# Altium schematic symbol library Sch_Lib.SchLib: 794 symbols (part 7 of 9)
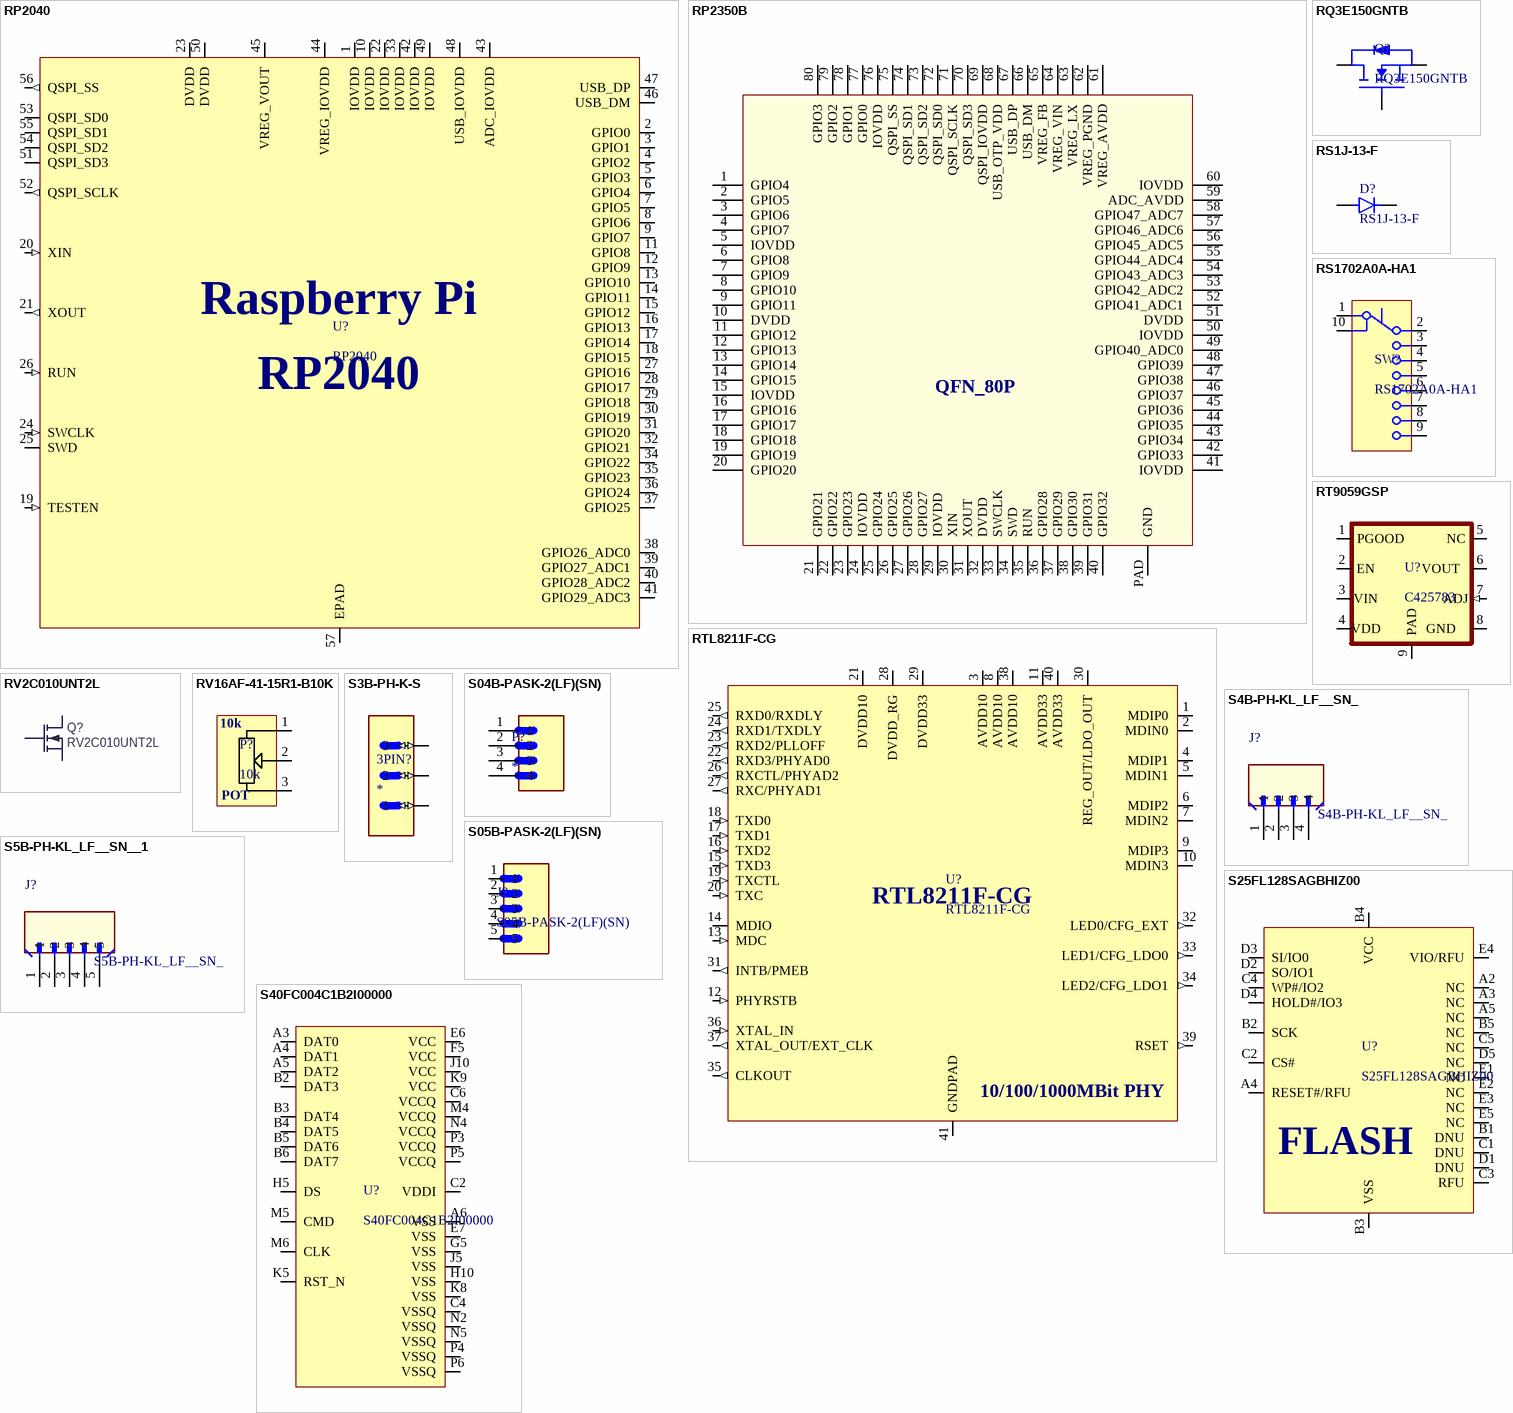
[diagram p51: symbols RP2040 to S40FC004C1B2I00000]

## RP2350B
designator U?
Cortex-M33 QFN-80 7-In |Raspberry-Pi RP2350B; MPN: RP2350B; LCSC: https://www.lcsc.com/product-detail/Microcontrollers-MCU-MPU-SOC_Raspberry-Pi-RP2350B_C42415655.html?s_z=n_rp2350B
footprint QFN-80_L10.0-W10.0-P0.40-TL-EP3.4 (RP2350B Footprint)
pins: 1 GPIO4 (oe), 2 GPIO5, 3 GPIO6, 4 GPIO7, 5 IOVDD (power), 6 GPIO8, 7 GPIO9, 8 GPIO10, 9 GPIO11, 10 DVDD (power), 11 GPIO12, 12 GPIO13, 13 GPIO14, 14 GPIO15, 15 IOVDD (power), 16 GPIO16, 17 GPIO17, 18 GPIO18, 19 GPIO19, 20 GPIO20, 21 GPIO21, 22 GPIO22, 23 GPIO23, 24 IOVDD (power), 25 GPIO24, 26 GPIO25, 27 GPIO26, 28 GPIO27, 29 IOVDD (power), 30 XIN, 31 XOUT, 32 DVDD (power), 33 SWCLK, 34 SWD, 35 RUN, 36 GPIO28, 37 GPIO29, 38 GPIO30, 39 GPIO31, 40 GPIO32, 41 IOVDD (power), 42 GPIO33, 43 GPIO34, 44 GPIO35, 45 GPIO36, 46 GPIO37, 47 GPIO38, 48 GPIO39, 49 GPIO40_ADC0, 50 IOVDD (power), 51 DVDD (power), 52 GPIO41_ADC1, 53 GPIO42_ADC2, 54 GPIO43_ADC3, 55 GPIO44_ADC4, 56 GPIO45_ADC5, 57 GPIO46_ADC6, 58 GPIO47_ADC7, 59 ADC_AVDD (power), 60 IOVDD (power), 61 VREG_AVDD (power), 62 VREG_PGND (power), 63 VREG_LX (power), 64 VREG_VIN (power), 65 VREG_FB (power), 66 USB_DM, 67 USB_DP, 68 USB_OTP_VDD (power), 69 QSPI_IOVDD (power), 70 QSPI_SD3, 71 QSPI_SCLK, 72 QSPI_SD0, 73 QSPI_SD2, 74 QSPI_SD1, 75 QSPI_SS, 76 IOVDD (power), 77 GPIO0, 78 GPIO1, 79 GPIO2, 80 GPIO3, PAD GND (power)
text: QFN_80P

## RQ3E150GNTB
designator Q?
Nch 30V 39A Middle Power MOSFET; Manufacturer: ROHM; Manufacturer Part Number: RQ3E150GNTB
footprint HSMT-8
pins: D, G, S

## RS1J-13-F
designator D?
Diode Switching 600V 1A 2Pin SMA | Diodes Inc RS1J-13-F; MF: Diodes Inc.; SnapEDA_Link: https://www.snapeda.com/parts/RS1J-13-F/Diodes+Inc./view-part/?ref=snap; Package: DO-214 Diodes Inc.; Value: *; MP: RS1J-13-F; Check_prices: https://www.snapeda.com/parts/RS1J-13-F/Diodes+Inc./view-part/?ref=eda
footprint DIOM4325X250N
pins: A, C K

## RS1702A0A-HA1
designator SW?
Rotarye Switch 10-Position THT; Manufacturer: Soundwell; Manufacturer Part Number: RS1702A0A-HA1
footprint RS1702A0A-HA1-5-012
pins: 1 COM, 2, 3, 4, 5, 6, 7, 8, 9, 10 COM

## RT9059GSP
designator U?, comment C425783
3A Adjustable 3V~5.5V Positive electrode 5.5V SOP-8-EP Voltage Regulators - Linear, Low Drop Out (LDO) Regulators ROHS
footprint SOIC127P599X175-9N
pins: 1, 2 (power), 3 (power), 4 (power), 5 (oc), 6 (power), 7 (in), 8 (power), 9 PAD (power)
text: PGOOD; NC; EN; VOUT; VIN; ADJ; VDD; GND

## RTL8211F-CG
designator U?
INTEGRATED 10/100/1000M ETHERNET PRECISION TRANSCEIVER; Manufacturer: Realtek; Manufacturer Part Number: RTL8211F-CG
footprint QFN-40-0.4-EP (QFN 40 Pads 0.4mm Pitch Thermal Pad)
pins: 1 MDIP0 (io), 2 MDIN0 (io), 3 AVDD10 (power), 4 MDIP1 (io), 5 MDIN1 (io), 6 MDIP2 (io), 7 MDIN2 (io), 8 AVDD10 (power), 9 MDIP3 (io), 10 MDIN3 (io), 11 AVDD33 (power), 12 PHYRSTB (in), 13 MDC (in), 14 MDIO (io), 15 TXD3 (in), 16 TXD2 (in), 17 TXD1 (in), 18 TXD0 (in), 19 TXCTL (in), 20 TXC (in), 21 DVDD10 (power), 22 RXD3/PHYAD0 (out), 23 RXD2/PLLOFF (out), 24 RXD1/TXDLY (out), 25 RXD0/RXDLY (out), 26 RXCTL/PHYAD2 (out), 27 RXC/PHYAD1 (out), 28 DVDD_RG (power), 29 DVDD33 (power), 30 REG_OUT/LDO_OUT (power), 31 INTB/PMEB (out), 32 LED0/CFG_EXT (out), 33 LED1/CFG_LDO0 (out), 34 LED2/CFG_LDO1 (out), 35 CLKOUT (out), 36 XTAL_IN (in), 37 XTAL_OUT/EXT_CLK (out), 38 AVDD10 (power), 39 RSET (out), 40 AVDD33 (power), 41 GNDPAD (power)
text: 10/100/1000MBit PHY

## RV2C010UNT2L
designator Q?
N-Channel MOSFET, 20V, 1A, 470mOhm, 400mW; Manufacturer: Rohm Semiconductor; Part number IPS: 00000009976; Part number Norautron: 26320026; Part number NEMS: 101300132; Note: N.A.; Artikkelnr Noca: 35010020; Pad Count: 3; Component Status: Active; Part Number: RV2C010UNT2L; Manufacturer Part Number: RV2C010UNT2L; ComponentLink1URL: N.A.; ComponentLink1Description: Datasheet; ComponentLink2URL: N.A.; ComponentLink2Description: Supplier link; HelpURL: http://rohmfs.rohm.com/en/products/databook/datasheet/discrete/transistor/mosfet/rv2c010unt2l-e.pdf; Footprint Doc: DFN-3; LatestRevisionDate: 2016-08-09; Published: 2016-08-09; Value: RV2C010UNT2L; Supplier 1: Digi-Key; Supplier Part Number 1: RV2C010UNT2LCT-ND; Supplier 2: Mouser; Supplier Part Number 2: 755-RV2C010UNT2L; PartId: 101300132; Component Class: Semiconductors; Author: rsk
footprint DFN65P100X40-3L
pins: 1 G, 2 S, 3 D

## RV16AF-41-15R1-B10K
designator P?, comment 10k
Potentiometer Vertical 10k THT Chassis-Mount 16mm; Manufacturer: Alpha; Manufacturer Part Number: RV16AF-41-15R1-B10K
footprint RV16AF-41-15R1-B10K
pins: 1, 2, 3
text: POT

## S3B-PH-K-S
designator 3PIN?
Connector Header Through Hole, Right Angle 3 position 0.079 (2.00mm); MF: JST Sales; MP: S3B-PH-K-S; SnapEDA_Link: https://www.snapeda.com/parts/S3B-PH-K-S/JST/view-part/?ref=snap; Package: NON STANDARD-3 J.S.T.; Value: *; Check_prices: https://www.snapeda.com/parts/S3B-PH-K-S/JST/view-part/?ref=eda
footprint S3B-PH-K-S
pins: 1 (io), 2 (io), 3 (io)

## S04B-PASK-2(LF)(SN)
designator P?
Connector Header Through Hole, Right Angle 4 position 0.079 (2.00mm); MF: JST Sales; MP: S04B-PASK-2(LF)(SN); SnapEDA_Link: https://www.snapeda.com/parts/S04B-PASK-2(LF)(SN)/JST/view-part/?ref=snap; Package: None; Value: *; Check_prices: https://www.snapeda.com/parts/S04B-PASK-2(LF)(SN)/JST/view-part/?ref=eda
footprint JST_S04B-PASK-2(LF)(SN)
pins: 1, 2, 3, 4

## S4B-PH-KL_LF__SN_
designator J?
CONN HEADER R/A 4POS 2MM; Manufacturer_Name: JST (JAPAN SOLDERLESS TERMINALS); Manufacturer_Part_Number: S4B-PH-KL(LF)(SN); Geometry.Height: 4.8mm; Mouser Part Number: 306-S4BPHKLLFSN; Mouser Price/Stock: https://www.mouser.co.uk/ProductDetail/JST-Commercial/S4B-PH-KLLFSN?qs=QpmGXVUTftG%2FzQwMPk3Vlw%3D%3D; Datasheet Link: https://datasheet.lcsc.com/szlcsc/JST-Sales-America-S4B-PH-KL-LF-SN_C160235.pdf
footprint S4BPHKLLFSN
pins: 1, 2, 3, 4

## S05B-PASK-2(LF)(SN)
designator J?
Connector Header Through Hole, Right Angle 4 position 0.079 (2.00mm)
footprint JST_S05B-PASK-2(LF)(SN)
pins: 1, 2, 3, 4, 5

## S5B-PH-KL_LF__SN__1
designator J?, comment S5B-PH-KL_LF__SN_
CONN HEADER R/A 5POS 2MM; Manufacturer_Name: JST (JAPAN SOLDERLESS TERMINALS); Manufacturer_Part_Number: S4B-PH-KL(LF)(SN); Geometry.Height: 4.8mm; Mouser Part Number: 306-S4BPHKLLFSN; Mouser Price/Stock: https://www.mouser.co.uk/ProductDetail/JST-Commercial/S4B-PH-KLLFSN?qs=QpmGXVUTftG%2FzQwMPk3Vlw%3D%3D; Datasheet Link: https://datasheet.lcsc.com/szlcsc/JST-Sales-America-S4B-PH-KL-LF-SN_C160235.pdf
footprint S5BPHKLLFSN
pins: 1, 2, 3, 4, 5

## S25FL128SAGBHIZ00
designator U?
NOR Flash 128Mb 133MHz QSPl; Manufacturer: Cypress Semiconductor; Manufacturer Part Number: S25FL128SAGBHIZ00
footprint BGA25C100P5X5_600X800X120 (BGA, 25-Leads, Body 6.00x8.00mmx1.20mm, Pitch 1.00mm)
pins: A2 NC, A3 NC, A4 RESET#/RFU, A5 NC, B1 DNU, B2 SCK, B3 VSS, B4 VCC, B5 NC, C1 DNU, C2 CS#, C3 RFU, C4 WP#/IO2, C5 NC, D1 DNU, D2 SO/IO1, D3 SI/IO0, D4 HOLD#/IO3, D5 NC, E1 NC, E2 NC, E3 NC, E4 VIO/RFU, E5 NC
text: FLASH

## S40FC004C1B2I00000
designator U?
eMMC MLC Memory 4GB 3V3; Manufacturer: SkyHigh Memory; Manufacturer Part Number: S40FC004C1B2I00000
footprint VFBGA153-9.0x7.5x0.8
pins: A3 DAT0, A4 DAT1, A5 DAT2, A6 VSS, B2 DAT3, B3 DAT4, B4 DAT5, B5 DAT6, B6 DAT7, C2 VDDI, C4 VSSQ, C6 VCCQ, E6 VCC, E7 VSS, F5 VCC, G5 VSS, H5 DS, H10 VSS, J5 VSS, J10 VCC, K5 RST_N, K8 VSS, K9 VCC, M4 VCCQ, M5 CMD, M6 CLK, N2 VSSQ, N4 VCCQ, N5 VSSQ, P3 VCCQ, P4 VSSQ, P5 VCCQ, P6 VSSQ

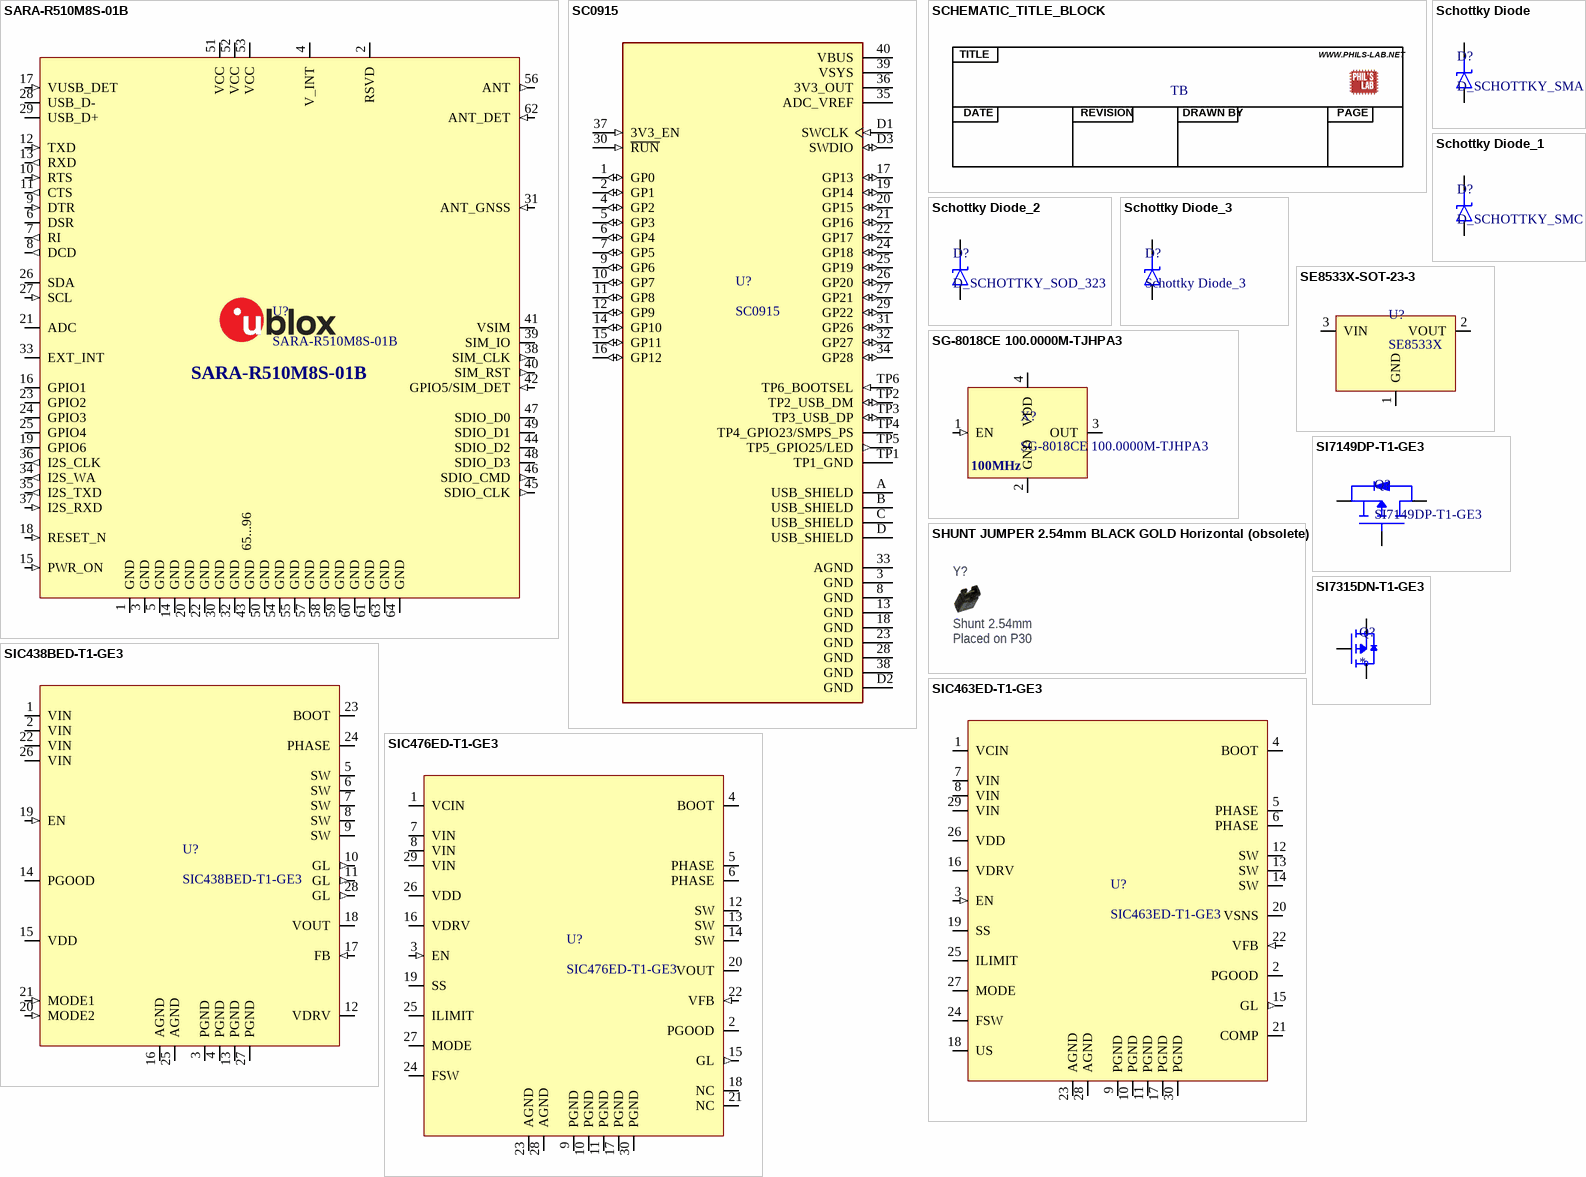
[diagram p31: symbols SARA-R510M8S-01B to SIC476ED-T1-GE3]

## SARA-R510M8S-01B
designator U?
Secure Cloud LTE-M and NB-IoT combo module with integrated u-blox M8 GNSS receiver for multi-regional use; Manufacturer: u-blox; Manufacturer Part Number: SARA-R510M8S-01B; Distributor Link: https://www.mouser.de/ProductDetail/u-blox/SARA-R510M8S-01B?qs=QNEnbhJQKvYa3sxdFdDP4w%3D%3D&gclid=CjwKCAiAwc-dBhA7EiwAxPRylKnSUPShzCKShE4YmhLtKIzyKR1Hn1Ejf9z6DrhP0wlU82vCiLopnxoC6RgQAvD_BwE
footprint SARA-XX (GSM/GPRS and GSM/EGPRS/HSPA Cellular Module)
pins: 1 GND (power), 2 RSVD, 3 GND (power), 4 V_INT (power), 5 GND (power), 6 DSR (io), 7 RI (out), 8 DCD (out), 9 DTR (in), 10 RTS (in), 11 CTS (out), 12 TXD (in), 13 RXD (out), 14 GND (power), 15 PWR_ON (in), 16 GPIO1 (io), 17 VUSB_DET (in), 18 RESET_N (in), 19 GPIO6, 20 GND (power), 21 ADC (power), 22 GND (power), 23 GPIO2 (io), 24 GPIO3 (io), 25 GPIO4 (io), 26 SDA (io), 27 SCL (in), 28 USB_D- (io), 29 USB_D+ (io), 30 GND (power), 31 ANT_GNSS (in), 32 GND (power), 33 EXT_INT, 34 I2S_WA (out), 35 I2S_TXD (out), 36 I2S_CLK (out), 37 I2S_RXD (in), 38 SIM_CLK (out), 39 SIM_IO (io), 40 SIM_RST (out), 41 VSIM (power), 42 GPIO5/SIM_DET (in), 43 GND (power), 44 SDIO_D2 (io), 45 SDIO_CLK (out), 46 SDIO_CMD (out), 47 SDIO_D0 (io), 48 SDIO_D3 (io), 49 SDIO_D1 (io), 50 GND (power), 51 VCC (power), 52 VCC (power), 53 VCC (power), 54 GND (power), 55 GND (power), 56 ANT (out), 57 GND (power), 58 GND (power), 59 GND (power), 60 GND (power), 61 GND (power), 62 ANT_DET (in), 63 GND (power), 64 GND (power), 65 GND (power), 66 GND (power), 67 GND (power), 68 GND (power), 69 GND (power), 70 GND (power), 71 GND (power), 72 GND (power), 73 GND (power), 74 GND (power), 75 GND (power), 76 GND (power), 77 GND (power), 78 GND (power), 79 GND (power), 80 GND (power), 81 GND (power), 82 GND (power), 83 GND (power), 84 GND (power), 85 GND (power), 86 GND (power), 87 GND (power), 88 GND (power), 89 GND (power), 90 GND (power), 91 GND (power), 92 GND (power), 93 GND (power), 94 GND (power), 95 GND (power), 96 GND (power)
text: 65...96

## SC0915
designator U?
RP2040 Raspberry Pi Pico series ARMÂ® CortexÂ®-M0+ MCU 32-Bit Embedded Evaluation Board; SnapEDA_Link: https://www.snapeda.com/parts/SC0915/Raspberry+Pi/view-part/?ref=snap; Availability: In Stock; Package: None; Price: None; MP: SC0915; Check_prices: https://www.snapeda.com/parts/SC0915/Raspberry+Pi/view-part/?ref=eda; MF: Raspberry Pi; Value: *; Purchase-URL: https://pricing.snapeda.com/search/part/SC0915/?ref=eda
footprint MODULE_SC0915
pins: 1 GP0 (io), 2 GP1 (io), 3 GND (power), 4 GP2 (io), 5 GP3 (io), 6 GP4 (io), 7 GP5 (io), 8 GND (power), 9 GP6 (io), 10 GP7 (io), 11 GP8 (io), 12 GP9 (io), 13 GND (power), 14 GP10 (io), 15 GP11 (io), 16 GP12 (io), 17 GP13 (io), 18 GND (power), 19 GP14 (io), 20 GP15 (io), 21 GP16 (io), 22 GP17 (io), 23 GND (power), 24 GP18 (io), 25 GP19 (io), 26 GP20 (io), 27 GP21 (io), 28 GND (power), 29 GP22 (io), 30 ~{RUN} (in), 31 GP26 (io), 32 GP27 (io), 33 AGND (power), 34 GP28 (io), 35 ADC_VREF (power), 36 3V3_OUT (power), 37 3V3_EN (in), 38 GND (power), 39 VSYS (power), 40 VBUS (power), A USB_SHIELD (power), B USB_SHIELD (power), C USB_SHIELD (power), D USB_SHIELD (power), D1 SWCLK (in), D2 GND (power), D3 SWDIO (io), TP1 TP1_GND (power), TP2 TP2_USB_DM (io), TP3 TP3_USB_DP (io), TP4 TP4_GPIO23/SMPS_PS, TP5 TP5_GPIO25/LED (out), TP6 TP6_BOOTSEL (in)

## SCHEMATIC_TITLE_BLOCK
designator TB  (value not drawn)  (graphical)
Default Schematic Title Block (Phil's Lab)
text: TITLE; WWW.PHILS-LAB.NET; DATE; REVISION; DRAWN BY; PAGE

## Schottky Diode
designator D?, comment D_SCHOTTKY_SMA
Diode Schottky SMD SMA (DO-214AA)
footprint DO-214AC-2 (SMA)
pins: A, K

## Schottky Diode_1
designator D?, comment D_SCHOTTKY_SMC
Diode Schottky SMD SMC (DO-214AB); Distributor Link: *
footprint SMC-DO-214AB
pins: A, K

## Schottky Diode_2
designator D?, comment D_SCHOTTKY_SOD_323
Diode Schottky SMD SOD-323
footprint SOD-323
pins: A, K

## Schottky Diode_3
designator D?
Schottky Diode SMD SMAF package
footprint DIOM5226X100N
pins: A, K

## SE8533X-SOT-23-3
designator U?, comment SE8533X
3.3V 250mA Fixed 3.3V Positive electrode 35V SOT-23-3 Linear Voltage Regulators (LDO) ROHS; Manufacturer: Microchip; Manufacturer Part Number: MCP9701T-E/TT
footprint SE85XX-SOT-23-3
pins: 1 GND, 2 VOUT, 3 VIN

## SG-8018CE 100.0000M-TJHPA3
designator X?
Standard Clock Oscillators 100 MHz 1.8V-3.3V 15PF 50PPM 3.2mm x 2.5mm; Manufacturer: Epson; Manufacturer Part Number: SG-8018CE 100.0000M-TJHPA3
footprint XTAL_3225
pins: 1 EN (in), 2 GND (power), 3 OUT, 4 VDD (power)
text: 100MHz

## SHUNT JUMPER 2.54mm BLACK GOLD Horizontal (obsolete)
designator Y?, comment Shunt 2.54mm  Assembly: Placed on P30
Shunt Jumper 2.54mm Black; Part Number: SHUNT JUMPER 2.54mm BLACK GOLD Horizontal (Obsolete); Manufacturer: 3M; Manufacturer Part Number: 969102-0000-DA; Part number IPS: 00000001916; Part number Norautron: N.A.; Part number NEMS: 100500644; Note: SHUNT JUMPER .1" BLACK GOLD, h=6.00mm, w=5.00mm; Artikkelnr Noca: 56099001; Pad Count: 2; Component Status: Obsolete; System: Connector; ComponentLink1URL: N.A.; ComponentLink1Description: Datasheet; ComponentLink2URL: N.A.; ComponentLink2Description: Supplier link; HelpURL: http://www.digikey.com/product-detail/en/969102-0000-DA; Footprint Doc: SHUNT JUMPER 2.54mm; LatestRevisionDate: 2021-06-28; Published: 2019-09-04; Value: Shunt 2.54mm; Supplier 1: Digi-Key; Supplier Part Number 1: 3M9580-ND; Supplier 2: N.A.; Supplier Part Number 2: N.A.; PartId: 100500644; Component Class: Connectors; Author: rsk
footprint Shunt_2.54mm_Horizontal

## SI7149DP-T1-GE3
designator Q?
MOSFET P-Channel Vds=30V Id=50A Rds=5.2mR; Manufacturer: Vishay; Manufacturer Part Number: SI7149DP-T1-GE3
footprint PowerPAK-SO-8
pins: D, G, S

## SI7315DN-T1-GE3
designator Q?
150V 8.9A 3.8W 315mΩ@10V,8.9A 1 P-Channel PowerPAK1212-8 MOSFETs ROHS; MF: Vishay Siliconix; MP: SIS468DN-T1-GE3; SnapEDA_Link: https://www.snapeda.com/parts/SIS468DN-T1-GE3/Vishay/view-part/?ref=snap; Package: PowerPAKÂ®-1212 Vishay; Value: *; Check_prices: https://www.snapeda.com/parts/SIS468DN-T1-GE3/Vishay/view-part/?ref=eda
footprint VISHAY_SIS468DN-T1-GE3
pins: 1 S, 2 S, 3 S, 4 G, 5 D, 6 D, 7 D, 8 D, 9 D

## SIC438BED-T1-GE3
designator U?
3 V to 28 V Input 8A microBUCK® DC/DC Converter; Manufacturer: Vishay; Manufacturer Part Number: SIC438BED-T1-GE3; Distributor Link: https://eu.mouser.com/ProductDetail/Vishay-Siliconix/SIC438BED-T1-GE3?qs=wd5RIQLrsJhAHAqoS3ITiQ%3D%3D; LCSC: C511430
footprint MLP44-24L
pins: 1 VIN (power), 2 VIN (power), 3 PGND (power), 4 PGND (power), 5 SW (power), 6 SW (power), 7 SW (power), 8 SW (power), 9 SW (power), 10 GL (out), 11 GL (out), 12 VDRV (power), 13 PGND (power), 14 PGOOD (oc), 15 VDD (power), 16 AGND (power), 17 FB (in), 18 VOUT (power), 19 EN (in), 20 MODE2 (in), 21 MODE1 (in), 22 VIN (power), 23 BOOT (power), 24 PHASE (power), 25 AGND (power), 26 VIN (power), 27 PGND (power), 28 GL (out)

## SIC463ED-T1-GE3
designator U?
4.5 V to 60 V Input, 4 A microBUCK® DC/DC Converter; Manufacturer: Vishay; Manufacturer Part Number: SIC463ED-T1-GE3
footprint MLP55-27L
pins: 1 VCIN (power), 2 PGOOD (oc), 3 EN (in), 4 BOOT (power), 5 PHASE (power), 6 PHASE (power), 7 VIN (power), 8 VIN (power), 9 PGND (power), 10 PGND (power), 11 PGND (power), 12 SW (power), 13 SW (power), 14 SW (power), 15 GL (out), 16 VDRV (power), 17 PGND (power), 18 US, 19 SS, 20 VSNS (power), 21 COMP, 22 VFB (in), 23 AGND (power), 24 FSW, 25 ILIMIT, 26 VDD (power), 27 MODE, 28 AGND (power), 29 VIN (power), 30 PGND (power)

## SIC476ED-T1-GE3
designator U?
4.5 V to 55 V Input, 3 A, 5 A, 8 A, 12 A microBUCK® DC/DC Converter; Manufacturer: Vishay; Manufacturer Part Number: SIC476ED-T1-GE3
footprint MLP55-27L
pins: 1 VCIN (power), 2 PGOOD (oc), 3 EN (in), 4 BOOT (power), 5 PHASE (power), 6 PHASE (power), 7 VIN (power), 8 VIN (power), 9 PGND (power), 10 PGND (power), 11 PGND (power), 12 SW (power), 13 SW (power), 14 SW (power), 15 GL (out), 16 VDRV (power), 17 PGND (power), 18 NC, 19 SS, 20 VOUT (power), 21 NC, 22 VFB (in), 23 AGND (power), 24 FSW, 25 ILIMIT, 26 VDD (power), 27 MODE, 28 AGND (power), 29 VIN (power), 30 PGND (power)

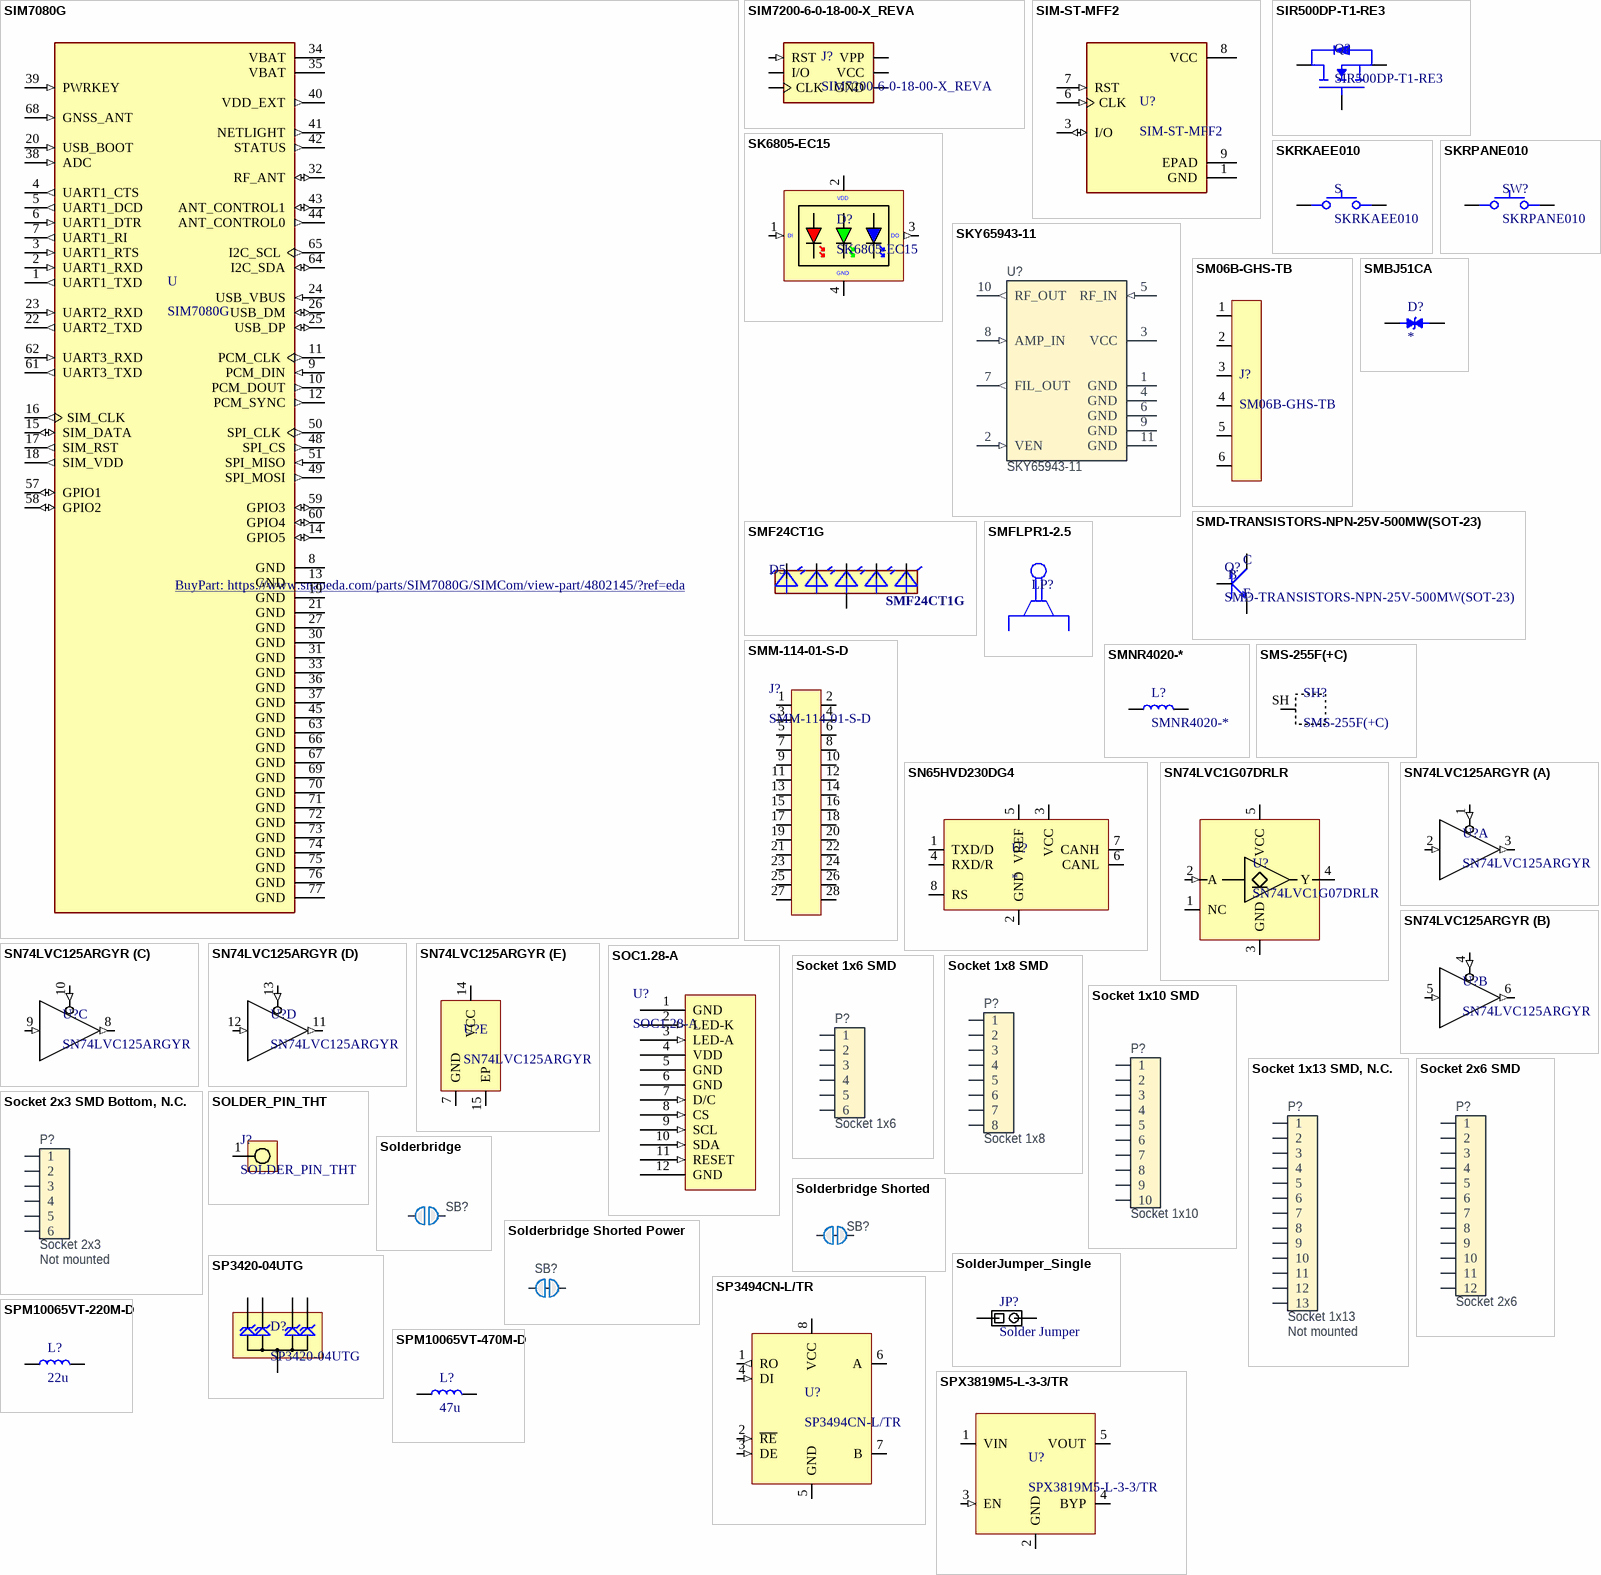
[diagram p32: symbols SIM7080G to SPX3819M5-L-3-3/TR]

## SIM7080G
designator U
Multi-Band CAT-M and NB-IoT module solution in an SMT type.; MF: SIMCom; Package: Package; MP: SIM7080G; Price: None; Availability: Unavailable; Value: *; SnapEDA_Link: https://www.snapeda.com/parts/SIM7080G/SIMCom/view-part/4802145/?ref=snap; BuyPart: https://www.snapeda.com/parts/SIM7080G/SIMCom/view-part/4802145/?ref=eda
footprint XCVR_SIM7080G
pins: 1 UART1_TXD (out), 2 UART1_RXD (in), 3 UART1_RTS (in), 4 UART1_CTS (out), 5 UART1_DCD (out), 6 UART1_DTR (in), 7 UART1_RI (out), 8 GND (power), 9 PCM_DIN (in), 10 PCM_DOUT (out), 11 PCM_CLK (out), 12 PCM_SYNC (out), 13 GND (power), 14 GPIO5 (io), 15 SIM_DATA (io), 16 SIM_CLK (out), 17 SIM_RST (out), 18 SIM_VDD (out), 19 GND (power), 20 USB_BOOT (in), 21 GND (power), 22 UART2_TXD (out), 23 UART2_RXD (in), 24 USB_VBUS (in), 25 USB_DP (io), 26 USB_DM (io), 27 GND (power), 30 GND (power), 31 GND (power), 32 RF_ANT (io), 33 GND (power), 34 VBAT (power), 35 VBAT (power), 36 GND (power), 37 GND (power), 38 ADC (in), 39 PWRKEY (in), 40 VDD_EXT (out), 41 NETLIGHT (out), 42 STATUS (out), 43 ANT_CONTROL1 (io), 44 ANT_CONTROL0 (out), 45 GND (power), 48 SPI_CS (out), 49 SPI_MOSI (out), 50 SPI_CLK (out), 51 SPI_MISO (in), 57 GPIO1 (io), 58 GPIO2 (io), 59 GPIO3 (io), 60 GPIO4 (io), 61 UART3_TXD (out), 62 UART3_RXD (in), 63 GND (power), 64 I2C_SDA (io), 65 I2C_SCL (out), 66 GND (power), 67 GND (power), 68 GNSS_ANT (in), 69 GND (power), 70 GND (power), 71 GND (power), 72 GND (power), 73 GND (power), 74 GND (power), 75 GND (power), 76 GND (power), 77 GND (power)

## SIM7200-6-0-18-00-X_REVA
designator J?
6 Position Card Connector Micro SIM Surface Mount, Right Angle Gold; MP: SIM7200-6-0-18-00-A; MF: Global Connector Technology; SnapEDA_Link: https://www.snapeda.com/parts/SIM7200-6-0-18-00-A/Global+Connector+Technology/view-part/?ref=snap; Availability: In Stock; Price: None; Value: *; Check_prices: https://www.snapeda.com/parts/SIM7200-6-0-18-00-A/Global+Connector+Technology/view-part/?ref=eda; Package: None
footprint GCT_SIM7200-6-0-18-00-X_REVA
pins: C1 VCC (power), C2 RST (in), C3 CLK (io), C5 GND (power), C6 VPP (power), C7 I/O (io)

## SIM-ST-MFF2
designator U?
GLOBAL IOT EMBEDDED SIM CHIP; Value: *; Availability: Unavailable; Price: None; MP: SIM-ST-MFF2; Package: None
footprint PSON127P500X600X82-9N
pins: 1 GND (power), 3 I/O (io), 6 CLK (in), 7 RST (in), 8 VCC (power), 9 EPAD

## SIR500DP-T1-RE3
designator Q?
MOSFET N-Channel Vds=30V Id=351A Rds=470uR; Manufacturer: Vishay; Manufacturer Part Number: SIR500DP-T1-RE3
footprint PowerPAK-SO-8
pins: D, G, S

## SK6805-EC15
designator D?
RGB LED SMD Addressable; Manufacturer: OPSCO; Manufacturer Part Number: SK6805-EC15; Datasheet: https://www.ledlightinghut.com/files/SK6805-EC15-REV-05-EN.pdf; Distributor Link: https://eu.mouser.com/ProductDetail/Adafruit/4492?qs=CUBnOrq4ZJz3oeplDXDOWA%3D%3D
footprint SK6805-EC15
pins: 1 DIN (in), 2 VDD (power), 3 DOUT (out), 4 GND (power)
text: DI; DO

## SKRKAEE010
designator S
Switch Tactile N.O. SPST Round Button Gull Wing 0.05A 12VDC 1.57N SMD T/R; MF: ALPS; Availability: Unavailable; Price: None; Package: None; Value: *; SnapEDA_Link: https://www.snapeda.com/parts/SKRKAEE010/ALPS/view-part/380772/?ref=snap; MP: SKRKAEE010
footprint SKRK
pins: 1, 2

## SKRPANE010
designator SW?
Tactile Switch SMD SPST; Manufacturer: Alps Alpine; Manufacturer Part Number: SKRPANE010
footprint SKRPANE010
pins: 12, 34

## SKY65943-11
designator U?
GNSS Low-Noise Amplifier Front-End Module with Integrated Pre-Filter and Post-Filter; Manufacturer: Skyworks; Part number IPS: 00000002997; Part number NEMS: 101900584; Note: N.A.; Pad Count: 10; Component Status: Active; Part Number: SKY65943-11; Manufacturer Part Number: SKY65943-11; Footprint Doc: MCM-10; Value: SKY65943-11; ComponentLink1URL: http://www.skyworksinc.com/uploads/documents/SKY65943_11_204404F.pdf; ComponentLink1Description: Datasheet; ComponentLink2URL: https://www.digikey.com/product-detail/en/skyworks-solutions-inc/SKY65943-11/863-2032-1-ND; ComponentLink2Description: Supplier link; HelpURL: http://www.skyworksinc.com/Product/3579/SKY65943-11; LatestRevisionDate: 2019-04-16; Published: 2019-04-16; Supplier 1: Digi-Key; Supplier Part Number 1: 863-2032-1-ND; Supplier 2: Mouser; Supplier Part Number 2: 873-SKY65943-11; Artikkelnr Noca: N.A.; PartId: 101900584; Component Class: Misc_ICs; Author: rsk; Part number Norautron: N.A.
footprint SKY65943-11
pins: 1 GND (power), 2 VEN (in), 3 VCC (power), 4 GND (power), 5 RF_IN (in), 6 GND (power), 7 FIL_OUT (out), 8 AMP_IN (in), 9 GND (power), 10 RF_OUT (out), 11 GND (power)

## SM06B-GHS-TB
designator J?
Header Connector 6 Position 1.25MM Pitch SMD Horizontal JST GH; Manufacturer: JST; Manufacturer Part Number: SM06B-GHS-TB
footprint Model Name (Footprint not found)
footprint SM06B-GHS-TB
pins: 1, 2, 3, 4, 5, 6

## SMBJ51CA
designator D?
600W, 59.7V, 5%, Bidirectional, TVS; MP: SMBJ51CA; MF: Taiwan Semiconductor Corporation; Purchase-URL: https://pricing.snapeda.com/search/part/SMBJ51CA/?ref=eda; Value: *; Availability: In Stock; Package: SMB Taiwan Semiconductor; SnapEDA_Link: https://www.snapeda.com/parts/SMBJ51CA/Taiwan+Semiconductor/view-part/?ref=snap; Price: None; Check_prices: https://www.snapeda.com/parts/SMBJ51CA/Taiwan+Semiconductor/view-part/?ref=eda
footprint DIOM4336X265N
pins: 1, 2

## SMD-TRANSISTORS-NPN-25V-500MW(SOT-23)
designator Q?
Bipolar (BJT) Transistor NPN 25 V 500 mA 150MHz 300 mW Surface Mount SOT-23; MF: UMW; MP: S8050; Purchase-URL: https://pricing.snapeda.com/search/part/S8050/?ref=eda; Check_prices: https://www.snapeda.com/parts/S8050/Umwelt+Sensor+Teknik/view-part/?ref=eda; SnapEDA_Link: https://www.snapeda.com/parts/S8050/Umwelt+Sensor+Teknik/view-part/?ref=snap; Price: None; Availability: In Stock; Package: None; Value: *
footprint SOT-23
pins: 1 B, 2 E, 3 C

## SMF24CT1G
designator D5
Quint Uni-Directional TVS Diode, 100W, 6-Pin SC-88 | ON Semiconductor SMF24CT1G; MP: SMF05C; MF: ProTek Devices; Price: None; Availability: In Stock; Package: TSSOP-6 ProTek Devices; SnapEDA_Link: https://www.snapeda.com/parts/SMF05C/Protek+Devices/view-part/?ref=snap; Check_prices: https://www.snapeda.com/parts/SMF05C/Protek+Devices/view-part/?ref=eda; Value: *
footprint SOT65P210X110-6N
pins: 1 C1, 2 A, 3 C2, 4 C3, 5 C4, 6 C5

## SMFLPR1-2.5
designator LP?  (value not drawn)  (mechanical)
LED Light-Pipe Rectangular Lense 2.5in Length 1mm Core; Manufacturer: BIVAR; Manufacturer Part Number: SMFLPR1-2.5; Distributor Link: https://www.mouser.de/ProductDetail/Bivar/SMFLPR1-2.5?qs=jaLxTFIJCisDD%2F7xsHCz4Q%3D%3D
footprint SMFLPR1-2.5

## SMM-114-01-S-D
designator J?
Low Profile Socket Strip 2.00 mm Pitch THT; Manufacturer: Samtec; Manufacturer Part Number: SMM-114-01-S-D
footprint SMM-114-01-S-D
pins: 1, 2, 3, 4, 5, 6, 7, 8, 9, 10, 11, 12, 13, 14, 15, 16, 17, 18, 19, 20, 21, 22, 23, 24, 25, 26, 27, 28

## SMNR4020-*
designator L?
Inductor SXN SMNR4020 Series 4x4x2mm; Manufacturer: SXN; Manufacturer Part Number: SMNR4020-*; Distributor Link: *; LCSC: *
footprint SMNR4020 (Inductor SMNR4020)
pins: 1, 2

## SMS-255F(+C)
designator SH?
RF Shield 19.05mm x 19.05mm x 5.08mm / SMS-255F = Frame / SMS-255C = Cover; Manufacturer: LeaderTech; Manufacturer Part Number: SMS-255F
footprint SMS-255F
pins: SH

## SN65HVD230DG4
designator U?
3.3 V CAN Transceiver with Standby Mode 8-SOIC -40 to 85; MF: Texas Instruments; MP: SN65HVD230DG4; SnapEDA_Link: https://www.snapeda.com/parts/SN65HVD230DG4/Texas+Instruments/view-part/?ref=snap; Package: SOIC-8 Texas Instruments; Value: *; Check_prices: https://www.snapeda.com/parts/SN65HVD230DG4/Texas+Instruments/view-part/?ref=eda
footprint SOIC127P599X175-8N
pins: 1 TXD/D, 2 GND , 3 VCC, 4 RXD/R, 5 VREF, 6 CANL, 7 CANH, 8 RS

## SN74LVC1G07DRLR
designator U?
Single Buffer/Driver With Open-Drain Output; Manufacturer: Texas Instruments; Manufacturer Part Number: SN74LVC1G07DRLR; Distributor Link: https://www.mouser.de/ProductDetail/Texas-Instruments/SN74LVC1G07DRLR?qs=pajgIaoyDUjwau6f5T7MtQ%3D%3D; LCSC: C183013
footprint SOT-5 (SOT, 5-Leads, Body 1.60x1.60mm, Pitch 0.50mm, IPC Medium Density)
pins: 1 NC, 2 A (in), 3 GND (power), 4 Y (oc), 5 VCC (power)

## SN74LVC125ARGYR
designator U?
Quadruple Bus Buffer Gate With 3-State Outputs; Manufacturer: Texas Instruments; Manufacturer Part Number: SN74LVC125ARGYR; Distributor Link: https://www.mouser.de/ProductDetail/Texas-Instruments/SN74LVC125ARGYR?qs=d9gICRQKuCcvN%252BAdiEuZ%252BA%3D%3D; LCSC: https://www.lcsc.com/product-detail/Buffer-Driver-Transceiver_Texas-Instruments-SN74LVC125ARGYR_C2652108.html
footprint VQFN-14 (QFN, 14-Leads, Body 3.50x3.50mm, Pitch 0.50mm, Thermal Pad 2.00x2.00mm, IPC Medium Density)
part A pins: 1 1~{OE} (in), 2 1A (in), 3 1Y (out)
part B pins: 4 2~{OE} (in), 5 2A (in), 6 2Y (out)
part C pins: 8 3Y (out), 9 3A (in), 10 3~{OE} (in)
part D pins: 11 4Y (out), 12 4A (in), 13 4~{OE} (in)
part E pins: 7 GND (power), 14 VCC (power), 15 EP (power)

## SOC1.28-A
designator U?
SOC1.28-A is a 240RGBX240 dot-matrix TFT LCD module. / This module is composed of a TFT LCD Panel, driver ICs, FPC and a Backlight unit.
footprint SOC1.28-A
pins: 1 GND  (power), 2 LED-K (in), 3 LED-A (in), 4 VDD (power), 5 GND  (power), 6 GND (power), 7 D/C (in), 8 CS (in), 9 SCL (in), 10 SDA (in), 11 RESET (in), 12 GND (power)

## Socket 1x6 SMD
designator P?, comment Socket 1x6
Socket 1x6, 2.54mm (100mil), SMD; Part Number: Socket 1x6 SMD; Manufacturer: WCON; Manufacturer Part Number: 2171-106MS0CUNR1; Part number IPS: 00000009964; Part number Norautron: 26032370; Part number NEMS: 100500408; Note: N.A.; Artikkelnr Noca: 55030001; Pad Count: 6; Component Status: Active; System: Connector; Footprint Doc: SOCKET_1x6_SMD; LatestRevisionDate: 2017-10-23; Published: 2016-01-22; Value: Socket 1x6; ComponentLink1URL: N.A.; ComponentLink1Description: Datasheet; ComponentLink2URL: N.A.; ComponentLink2Description: Supplier link; HelpURL: N.A.; Supplier 1: Cabcon; Supplier Part Number 1: 2171-106MS0CUNR1; Supplier 2: Samtec; Supplier Part Number 2: SSM-106-F-SV-P-TR; PartId: 100500408; Component Class: Connectors; Author: rsk
footprint SOCKET_1x6_SMD
pins: 1, 2, 3, 4, 5, 6
1 alternate drawing of the same symbol

## Socket 1x8 SMD
designator P?, comment Socket 1x8
Socket 1x8, 2.54mm (100mil), SMD; Part Number: Socket 1x8 SMD; Manufacturer: WCON; Manufacturer Part Number: 2171-108MS0CUNR1; Part number IPS: 00000009963; Part number Norautron: 26032369; Part number NEMS: 100500412; Note: N.A.; Artikkelnr Noca: 55030002; Pad Count: 8; Component Status: Active; System: Connector; Footprint Doc: SOCKET_1x8_SMD; LatestRevisionDate: 2017-10-23; Published: 2016-01-22; Value: Socket 1x8; ComponentLink1URL: N.A.; ComponentLink1Description: Datasheet; ComponentLink2URL: N.A.; ComponentLink2Description: Supplier link; HelpURL: N.A.; Supplier 1: Cabcon; Supplier Part Number 1: 2171-108MS0CUNR1; Supplier 2: Samtec; Supplier Part Number 2: SSM-108-F-SV-P-TR; PartId: 100500412; Component Class: Connectors; Author: rsk
footprint SOCKET_1x8_SMD
pins: 1, 2, 3, 4, 5, 6, 7, 8
1 alternate drawing of the same symbol

## Socket 1x10 SMD
designator P?, comment Socket 1x10
Socket 1x10, 2.54mm (100mil), SMD; Part Number: Socket 1x10 SMD; Manufacturer: WCON; Manufacturer Part Number: 2171-110MS0CUNR1; Part number IPS: 00000009965; Part number Norautron: 26032371; Part number NEMS: 100500416; Note: N.A.; Artikkelnr Noca: 55030004; Pad Count: 10; Component Status: Active; System: Connector; Footprint Doc: SOCKET_1x10_SMD; LatestRevisionDate: 2016-01-22; Published: 2016-01-22; Value: Socket 1x10; ComponentLink1URL: N.A.; ComponentLink1Description: Datasheet; ComponentLink2URL: N.A.; ComponentLink2Description: Supplier link; HelpURL: N.A.; Supplier 1: Cabcon; Supplier Part Number 1: 2171-110MS0CUNR1; Supplier 2: Samtec; Supplier Part Number 2: SSM-110-F-SV-P-TR; PartId: 100500416; Component Class: Connectors; Author: rsk
footprint SOCKET_1x10_SMD
pins: 1, 2, 3, 4, 5, 6, 7, 8, 9, 10
1 alternate drawing of the same symbol

## Socket 1x13 SMD, N.C.
designator P?, comment Socket 1x13  Assembly: Not mounted
Socket 1x13, 2.54mm (100mil), SMD; Part Number: Socket 1x13 SMD, N.C.; Manufacturer: WCON; Manufacturer Part Number: 2171-113MS0CUNR1; Part number NEMS: 100500422; Note: N.A.; Pad Count: 13; Component Status: Active; System: Connector; Footprint Doc: SOCKET_1x13_SMD; LatestRevisionDate: 2019-05-27; Published: 2019-05-27; Value: Socket 1x13; Artikkelnr Noca: N.A.; Part number IPS: N.A.; ComponentLink1URL: N.A.; ComponentLink1Description: Datasheet; ComponentLink2URL: N.A.; ComponentLink2Description: Supplier link; HelpURL: N.A.; Supplier 1: Cabcon; Supplier Part Number 1: 2171-113MS0CUNR1; Supplier 2: Samtec; Supplier Part Number 2: SSM-113-L-SV-P-TR; PartId: 100500422; Component Class: Connectors; Author: rsk; Part number Norautron: N.A.
footprint LIST_1x13_SMD-NC
pins: 1, 2, 3, 4, 5, 6, 7, 8, 9, 10, 11, 12, 13

## Socket 2x3 SMD Bottom, N.C.
designator P?, comment Socket 2x3  Assembly: Not mounted
Socket 2x3, 2.54mm (100mil), SMD; Part Number: Socket 2x3 SMD Bottom, N.C.; Manufacturer: WCON; Manufacturer Part Number: 2171-203MS0CUNR1; Part number NEMS: 100500434; Note: N.A.; Artikkelnr Noca: 55030010; Pad Count: 6; Component Status: Active; System: Connector; LatestRevisionDate: 2016-03-29; Published: 2014-06-10; Value: Socket 2x3; Footprint Doc: SOCKET_2x3_SMD-2.54mm-bottom; Part number IPS: N.A.; ComponentLink1URL: N.A.; ComponentLink1Description: Datasheet; ComponentLink2URL: N.A.; ComponentLink2Description: Supplier link; HelpURL: \\hizz\pro\app9717\Datasheet\connectors\W-CON\2171-2XXMXXCUNXX.pdf; Supplier 1: Cabcon; Supplier Part Number 1: 2171-203MS0CUNR1; Supplier 2: Samtec; Supplier Part Number 2: SSM-103-F-DV-P-TR; PartId: 100500434; Component Class: Connectors; Author: rsk; Part number Norautron: N.A.
footprint SOCKET_2x3_SMD-2.54mm-bottom-NC
pins: 1, 2, 3, 4, 5, 6
1 alternate drawing of the same symbol

## Socket 2x6 SMD
designator P?, comment Socket 2x6
Socket 2x6, 2.54mm (100mil), SMD; Part Number: Socket 2x6 SMD; Manufacturer: WCON; Manufacturer Part Number: 2171-206MS0CUNR1; Part number NEMS: 100500439; Note: N.A.; Pad Count: 12; Component Status: Active; System: Connector; ComponentLink1URL: N.A.; ComponentLink1Description: Datasheet; ComponentLink2URL: N.A.; ComponentLink2Description: Supplier link; HelpURL: N.A.; Footprint Doc: SOCKET_2x6_SMD-2.54mm; LatestRevisionDate: 2019-04-12; Published: 2019-04-12; Value: Socket 2x6; Artikkelnr Noca: N.A.; Part number IPS: N.A.; Supplier 1: Cabcon; Supplier Part Number 1: 2171-206MS0CUNR1; Supplier 2: Samtec; Supplier Part Number 2: SSM-106-F-DV-P-TR; PartId: 100500439; Component Class: Connectors; Author: rsk; Part number Norautron: N.A.
footprint SOCKET_2x6_SMD-2.54mm
pins: 1, 2, 3, 4, 5, 6, 7, 8, 9, 10, 11, 12
1 alternate drawing of the same symbol

## SOLDER_PIN_THT
designator J?
Solder Pin 1.5mm Through-Hole
footprint SOLDER_PIN_THT_1_5
pins: 1

## Solderbridge
designator SB?  (value not drawn)  (no BOM)
Manufacturer: N.A.; Part number NEMS: 100500458; Pad Count: 2; Component Status: Active; System: Connector; Part Number: Solderbridge; Manufacturer Part Number: N.A.; LatestRevisionDate: 2009-12-14; Published: 2009-12-14; Value: Solderbridge; Note: N.A.; Artikkelnr Noca: N.A.; Footprint Doc: Solderbridge; Part number IPS: N.A.; ComponentLink1URL: N.A.; ComponentLink1Description: Datasheet; ComponentLink2URL: N.A.; ComponentLink2Description: Supplier link; HelpURL: N.A.; Supplier 1: N.A.; Supplier Part Number 1: N.A.; Supplier 2: N.A.; Supplier Part Number 2: N.A.; PartId: 100500458; Component Class: Connectors; Author: rsk; Part number Norautron: N.A.
footprint Solderbridge
pins: 1 0, 2 1

## Solderbridge Shorted
designator SB?, comment Solderbridge  (value not drawn)  (net tie, no BOM)
Shorted Solderbridge; Part Number: Solderbridge Shorted; Manufacturer: N.A.; Part number NEMS: 100500459; Pad Count: 2; Component Status: Active; System: Connector; Manufacturer Part Number: N.A.; Footprint Doc: Solderbridge_Shorted; LatestRevisionDate: 2012-08-07; Published: 2012-08-07; Value: Solderbridge; Note: N.A.; Artikkelnr Noca: N.A.; Part number IPS: N.A.; ComponentLink1URL: N.A.; ComponentLink1Description: Datasheet; ComponentLink2URL: N.A.; ComponentLink2Description: Supplier link; HelpURL: N.A.; Supplier 1: N.A.; Supplier Part Number 1: N.A.; Supplier 2: N.A.; Supplier Part Number 2: N.A.; PartId: 100500459; Component Class: Connectors; Author: rsk; Part number Norautron: N.A.
footprint Solderbridge_Shorted
pins: 1 0, 2 1

## Solderbridge Shorted Power
designator SB?, comment Solderbridge  (value not drawn)  (net tie, no BOM)
Shorted Solderbridge Power; Part Number: Solderbridge Shorted Power; Manufacturer: N.A.; Part number NEMS: 100500460; Pad Count: 2; Component Status: Active; System: Connector; Manufacturer Part Number: N.A.; LatestRevisionDate: 2012-08-07; Published: 2012-08-07; Value: Solderbridge; Note: N.A.; Artikkelnr Noca: N.A.; Footprint Doc: Solderbridge_Shorted_Power; Part number IPS: N.A.; ComponentLink1URL: N.A.; ComponentLink1Description: Datasheet; ComponentLink2URL: N.A.; ComponentLink2Description: Supplier link; HelpURL: N.A.; Supplier 1: N.A.; Supplier Part Number 1: N.A.; Supplier 2: N.A.; Supplier Part Number 2: N.A.; PartId: 100500460; Component Class: Connectors; Author: rsk; Part number Norautron: N.A.
footprint Solderbridge_Shorted_Power
pins: 1 0, 2 1

## SolderJumper_Single
designator JP?, comment Solder Jumper
Solder Jumper Single 0.5mm Pitch
footprint SolderJumper_Single
pins: 1, 2

## SP3420-04UTG
designator D?
TVS Diode Array Low Capacitance ESD Protection 4-Channel (Vwork=3V3, Vclamp=6V); Manufacturer: Littelfuse; Manufacturer Part Number: SP3420-04UTG
footprint uDFN-10
pins: 29, 38 GND, 47, 56, 110

## SP3494CN-L/TR
designator U?
3.3V Low Power RS-485 / RS-422 Transceiver SOIC-8; Manufacturer: MaxLinear; Manufacturer Part Number: SP3494CN-L/TR
footprint SOIC-8 (SOIC, 8-Leads, Body 4.91x3.90mm, Pitch 1.27mm, IPC Medium Density)
pins: 1 RO (out), 2 ~{RE} (in), 3 DE (in), 4 DI (in), 5 GND (power), 6 A (io), 7 B (io), 8 VCC (power)

## SPM10065VT-220M-D
designator L?, comment 22u
Inductor SMD 22uH 5.4A 20%; Manufacturer: TDK; Manufacturer Part Number: SPM10065VT-220M-D
footprint SPM10065VT-220M-D
pins: 1, 2

## SPM10065VT-470M-D
designator L?, comment 47u
Inductor SMD 47uH 4A 20%; Manufacturer: TDK; Manufacturer Part Number: SPM10065VT-470M-D
footprint SPM10065VT-220M-D
pins: 1, 2

## SPX3819M5-L-3-3/TR
designator U?
500mA +3.3V Low-Noise LDO Voltage Regulator; Manufacturer: MaxLinear; Manufacturer Part Number: SPX3819M5-L-3-3/TR
footprint SOT-23-5 (SOT23, 5-Leads, Body 2,90x2,80mm, Pitch 0,95mm, IPC Medium Density)
pins: 1 VIN (power), 2 GND (power), 3 EN (in), 4 BYP, 5 VOUT (power)

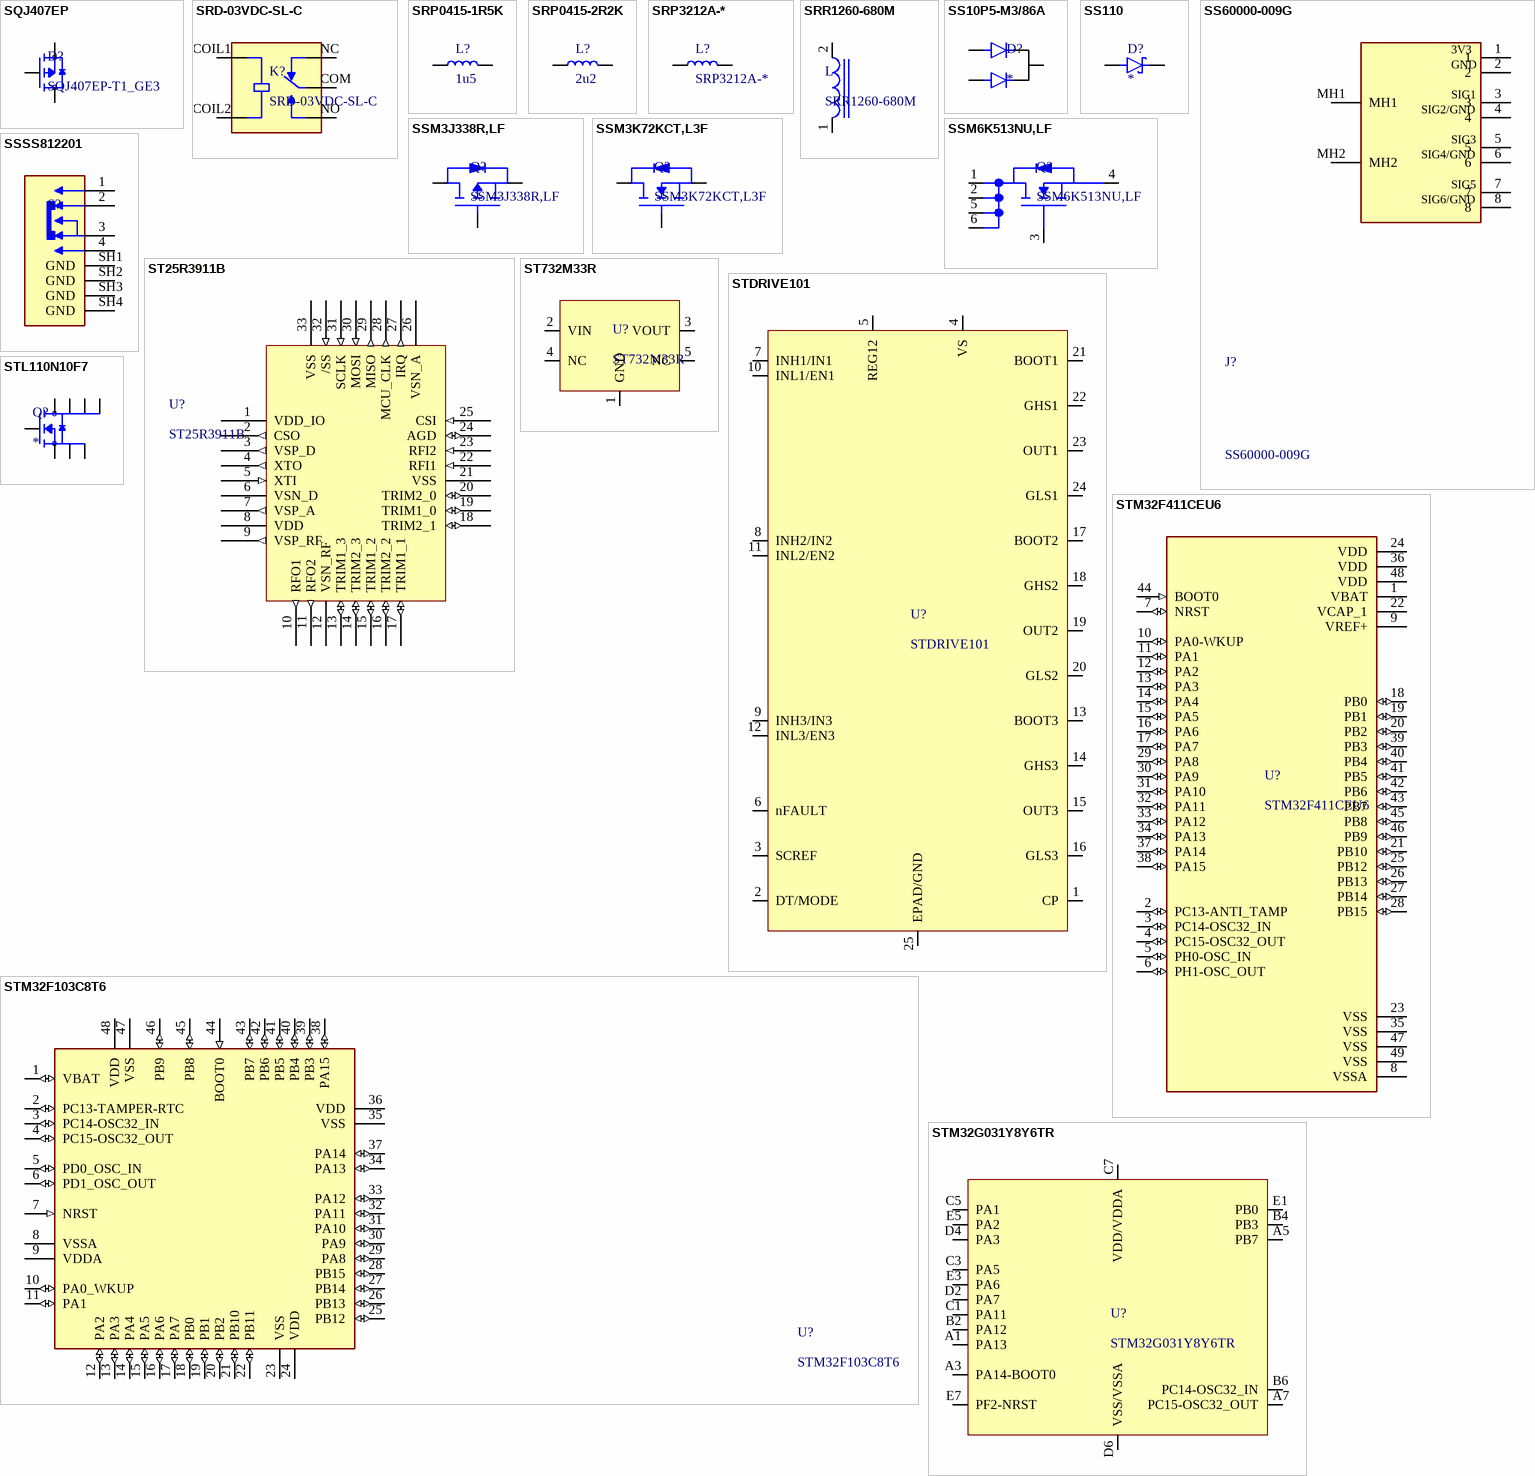
[diagram p33: symbols SQJ407EP to STM32G031Y8Y6TR]

## SQJ407EP
designator D?, comment SQJ407EP-T1_GE3
30V 56A 3.6mΩ@10V 68W 1 P-Channel PowerPAKSO-8L Single FETs, MOSFETs RoHS
footprint TRANS_SQJ431EP-T1_GE3
pins: 1 S, 2 S, 3 S, 4 G, 5 D

## SRD-03VDC-SL-C
designator K?
Relays General Purpose Non Latching 3VDC SPDT 10A (250VAC) Max 5PIN; MF: Songle Relay; Value: *; Price: None; Package: Package; Availability: Not in stock; Check_prices: https://www.snapeda.com/parts/SRD-03VDC-SL-C/Songle+Relay/view-part/?ref=eda; MP: SRD-03VDC-SL-C; SnapEDA_Link: https://www.snapeda.com/parts/SRD-03VDC-SL-C/Songle+Relay/view-part/?ref=snap
footprint RELAY_SRD-03VDC-SL-C
pins: COIL1, COIL2, COM, NC, NO

## SRP0415-1R5K
designator L?, comment 1u5
Inductor SMD 1.5uH Bourns SRP0415-1R5K; Manufacturer: Bourns; Manufacturer Part Number: SRP0415-1R5K
footprint SRP0415
pins: 1, 2

## SRP0415-2R2K
designator L?, comment 2u2
Inductor SMD 2.2uH Bourns SRP0415-2R2K; Manufacturer: Bourns; Manufacturer Part Number: SRP0415-2R2K
footprint SRP0415
pins: 1, 2

## SRP3212A-*
designator L?
Shielded Power Inductor SMD SRP3212A; Manufacturer: Bourns; Manufacturer Part Number: SRP3212A-*; Distributor Link: *
footprint SRP3212A
pins: 1, 2

## SRR1260-680M
designator L
68ÂµH Shielded Wirewound Inductor 2.1A 110mOhm Max Nonstandard; MF: Bourns; Package: Nonstandard Bourns; Value: *; Digi-Key_Purchase_URL: https://www.digikey.com/product-detail/en/bourns-inc/SRR1260-680M/SRR1260-680MCT-ND/2127423?utm_source=snapeda&utm_medium=aggregator&utm_campaign=symbol; Digi-Key_Part_Number: SRR1260-680MCT-ND; SnapEDA_Link: https://www.snapeda.com/parts/SRR1260-680M/Bourns/view-part/337191/?ref=snap; MP: SRR1260-680M
footprint INDP125125X600N
pins: 1, 2

## SS10P5-M3/86A
designator D?
50V 1 Independent 550mV@7A 7A TO-277A Schottky Diodes ROHS; MF: ON Semiconductor; MP: MUR1660CTG; SnapEDA_Link: https://www.snapeda.com/parts/MUR1660CTG/Onsemi/view-part/?ref=snap; Package: TO-220-3 ON; Value: *; Check_prices: https://www.snapeda.com/parts/MUR1660CTG/Onsemi/view-part/?ref=eda
footprint TO-277A-3
pins: 1, 2, K

## SS110
designator D?
1A, 100V, Schottky Rectifier; MF: Taiwan Semiconductor; MP: SS110; SnapEDA_Link: https://www.snapeda.com/parts/SS110/taiwan/view-part/?ref=snap; Package: SMA-2 Taiwan Semiconductor; Value: *; Check_prices: https://www.snapeda.com/parts/SS110/taiwan/view-part/?ref=eda
footprint DIOM4325X250N
pins: A, C K

## SS60000-009G
designator J?
Bel-Stewart Female Cat6 RJ45 Connector, Right Angle, PCB Mount Mount,; Manufacturer_Name: BelFuse; Geometry.Height: 13.97mm; Mouser Part Number: 530-SS60000-009G; Mouser Price/Stock: https://www.mouser.co.uk/ProductDetail/Stewart-Connector-Bel/SS60000-009G?qs=5aG0NVq1C4ysbp92EOky1Q%3D%3D; Manufacturer_Part_Number: SS60000-009G; Datasheet Link: *
footprint SS60000009G
pins: 1, 2, 3, 4, 5, 6, 7, 8, MH1, MH2
text: 3V3; GND; SIG1; SIG2/GND; SIG3; SIG4/GND; SIG5; SIG6/GND

## SSM3J338R,LF
designator Q?
MOSFET P-Channel Vds=12V Id=6A; Manufacturer Part Number: Toshiba; Manufacturer: SSM3J338R,LF
footprint SSM3J338R,LF-SOT23-F
pins: D, G, S

## SSM3K72KCT,L3F
designator Q?
MOSFET N-Channel Vds=60V Id=400mA Rds(on)=1.05R with ESD Protection; Manufacturer: Toshiba; Manufacturer Part Number: SSM3K72KCT,L3F; Distributor Link: https://www.mouser.de/ProductDetail/Toshiba/SSM3K72KCTL3F?qs=PDgMCp4xDJZBSQ%2Fqg29QOw%3D%3D
footprint CST3-SOT-883
pins: D, G, S

## SSM6K513NU,LF
designator Q?
MOSFET N-Channel Vds=30V Vgs=20V Id=15A; Manufacturer: Toshiba; Manufacturer Part Number: SSM6K513NU,LF; Distributor Link: https://www.mouser.de/ProductDetail/Toshiba/SSM6K513NULF?qs=zPgndZZmKGbOGaIT7oO3Dw%3D%3D; LCSC: C3008601
footprint SOT-1220
pins: 1 D, 2 D, 3 G, 4 S, 5 D, 6 D

## SSSS812201
designator S?
Slide Switch ; Rating (max.): 0.3 A 5 VDC ; Poles: 1 ; Positions: 3 ; Travel : 1.5 mm; MF: ALPS; MP: SSSS812201; SnapEDA_Link: https://www.snapeda.com/parts/SSSS812201/ALPS/view-part/?ref=snap; Package: None; Value: *; Check_prices: https://www.snapeda.com/parts/SSSS812201/ALPS/view-part/?ref=eda
footprint SW_SSSS812201
pins: 1, 2, 3, 4, SH1 GND (power), SH2 GND (power), SH3 GND (power), SH4 GND (power)

## ST25R3911B
designator U?
High performance HF reader / NFC initiator with 1.4 W supporting VHBR and AAT
footprint QFN50P500X500X100-33N
pins: 1 VDD_IO (power), 2 CSO (out), 3 VSP_D (out), 4 XTO (out), 5 XTI (in), 6 VSN_D (power), 7 VSP_A (out), 8 VDD (power), 9 VSP_RF (out), 10 RFO1 (out), 11 RFO2 (out), 12 VSN_RF (power), 13 TRIM1_3 (io), 14 TRIM2_3 (io), 15 TRIM1_2 (io), 16 TRIM2_2 (io), 17 TRIM1_1 (io), 18 TRIM2_1 (io), 19 TRIM1_0 (io), 20 TRIM2_0 (io), 21 VSS (power), 22 RFI1 (in), 23 RFI2 (in), 24 AGD (io), 25 CSI (in), 26 VSN_A (power), 27 IRQ (out), 28 MCU_CLK (out), 29 MISO (out), 30 MOSI (in), 31 SCLK (in), 32 /SS (in), 33 VSS (power)

## ST732M33R
designator U?
300 mA, 28 V LDO low-dropout voltage regulator, with 5 µA quiescent current; Manufacturer: STMicroelectronics; Manufacturer Part Number: ST732M33R
footprint SOT-23-5 (SOT23, 5-Leads, Body 2,90x2,80mm, Pitch 0,95mm, IPC Medium Density)
pins: 1 GND (power), 2 VIN (power), 3 VOUT (power), 4 NC, 5 NC

## STDRIVE101
designator U?
Gate Driver 3x Half-Bridge; Manufacturer: STMicroelectronics; Manufacturer Part Number: STDRIVE101
footprint VFQFPN24_4X4X1 (QFN, 24-Leads, Body 4,00x4,00mm, Pitch 0,50mm, Thermal Pad 2,50x2,50mm, IPC Medium Density)
pins: 1 CP, 2 DT/MODE, 3 SCREF, 4 VS, 5 REG12, 6 nFAULT, 7 INH1/IN1, 8 INH2/IN2, 9 INH3/IN3, 10 INL1/EN1, 11 INL2/EN2, 12 INL3/EN3, 13 BOOT3, 14 GHS3, 15 OUT3, 16 GLS3, 17 BOOT2, 18 GHS2, 19 OUT2, 20 GLS2, 21 BOOT1, 22 GHS1, 23 OUT1, 24 GLS1, 25 EPAD/GND

## STL110N10F7
designator Q?
100V 107A 6mΩ@10V,10A 136W 4.5V 1 N-Channel PowerFLAT-8(5x6) MOSFETs ROHS; MF: Texas Instruments; MP: CSD18540Q5B; SnapEDA_Link: https://www.snapeda.com/parts/CSD18540Q5B/Texas+Instruments/view-part/?ref=snap; Package: VSON-CLIP-8 Texas Instruments; Value: *; Check_prices: https://www.snapeda.com/parts/CSD18540Q5B/Texas+Instruments/view-part/?ref=eda
footprint TRANS_STL60P4LLF6
pins: 1 S, 1 S, 2 S, 2, 3, 4 G, 5 D, 6, 7, 8

## STM32F103C8T6
designator U?
ARMÂ® CortexÂ®-M3 STM32F1 Microcontroller IC 32-Bit 72MHz 64KB (64K x 8) FLASH 48-LQFP (7x7); MF: STMicroelectronics; Package: LQFP-48 STMicroelectronics; Price: None; Check_prices: https://www.snapeda.com/parts/STM32F103C8T6/STMicroelectronics/view-part/?ref=eda; Value: *; SnapEDA_Link: https://www.snapeda.com/parts/STM32F103C8T6/STMicroelectronics/view-part/?ref=snap; MP: STM32F103C8T6; Availability: In Stock; Purchase-URL: https://pricing.snapeda.com/search/part/STM32F103C8T6/?ref=eda
footprint QFP50P900X900X160-48N
pins: 1 VBAT (io), 2 PC13-TAMPER-RTC (io), 3 PC14-OSC32_IN (io), 4 PC15-OSC32_OUT (io), 5 PD0_OSC_IN (io), 6 PD1_OSC_OUT (io), 7 NRST (in), 8 VSSA (power), 9 VDDA (power), 10 PA0_WKUP (io), 11 PA1 (io), 12 PA2 (io), 13 PA3 (io), 14 PA4 (io), 15 PA5 (io), 16 PA6 (io), 17 PA7 (io), 18 PB0 (io), 19 PB1 (io), 20 PB2 (io), 21 PB10 (io), 22 PB11 (io), 23 VSS (power), 24 VDD (power), 25 PB12 (io), 26 PB13 (io), 27 PB14 (io), 28 PB15 (io), 29 PA8 (io), 30 PA9 (io), 31 PA10 (io), 32 PA11 (io), 33 PA12 (io), 34 PA13 (io), 35 VSS (power), 36 VDD (power), 37 PA14 (io), 38 PA15 (io), 39 PB3 (io), 40 PB4 (io), 41 PB5 (io), 42 PB6 (io), 43 PB7 (io), 44 BOOT0 (in), 45 PB8 (io), 46 PB9 (io), 47 VSS (power), 48 VDD (power)

## STM32F411CEU6
designator U?
High-performance access line, ARM Cortex-M4 core with DSP and FPU, 512 Kbytes Flash, 100 MHz CPU, ART Accelerator; Package: None; Availability: Unavailable; Value: *; MP: STM32F411CEU6; Price: None
footprint QFN50P700X700X60-49N
pins: 1 VBAT (power), 2 PC13-ANTI_TAMP (io), 3 PC14-OSC32_IN (io), 4 PC15-OSC32_OUT (io), 5 PH0-OSC_IN (io), 6 PH1-OSC_OUT (io), 7 NRST (io), 8 VSSA (power), 9 VREF+ (power), 10 PA0-WKUP (io), 11 PA1 (io), 12 PA2 (io), 13 PA3 (io), 14 PA4 (io), 15 PA5 (io), 16 PA6 (io), 17 PA7 (io), 18 PB0 (io), 19 PB1 (io), 20 PB2 (io), 21 PB10 (io), 22 VCAP_1 (power), 23 VSS (power), 24 VDD (power), 25 PB12 (io), 26 PB13 (io), 27 PB14 (io), 28 PB15 (io), 29 PA8 (io), 30 PA9 (io), 31 PA10 (io), 32 PA11 (io), 33 PA12 (io), 34 PA13 (io), 35 VSS (power), 36 VDD (power), 37 PA14 (io), 38 PA15 (io), 39 PB3 (io), 40 PB4 (io), 41 PB5 (io), 42 PB6 (io), 43 PB7 (io), 44 BOOT0 (in), 45 PB8 (io), 46 PB9 (io), 47 VSS (power), 48 VDD (power), 49 VSS (power)

## STM32G031Y8Y6TR
designator U?
ARM Microcontrollers - MCU Mainstream Arm Cortex-M0+ MCU 64 Kbytes of Flash 8 Kbytes RAM, 64 MHz CPU STM32; Manufacturer: STMicroelectronics; Manufacturer Part Number: STM32G031Y8Y6TR
footprint WLCSP18
pins: A1 PA13, A3 PA14-BOOT0, A5 PB7, A7 PC15-OSC32_OUT, B2 PA12, B4 PB3, B6 PC14-OSC32_IN, C1 PA11, C3 PA5, C5 PA1, C7 VDD/VDDA (power), D2 PA7, D4 PA3, D6 VSS/VSSA (power), E1 PB0, E3 PA6, E5 PA2, E7 PF2-NRST

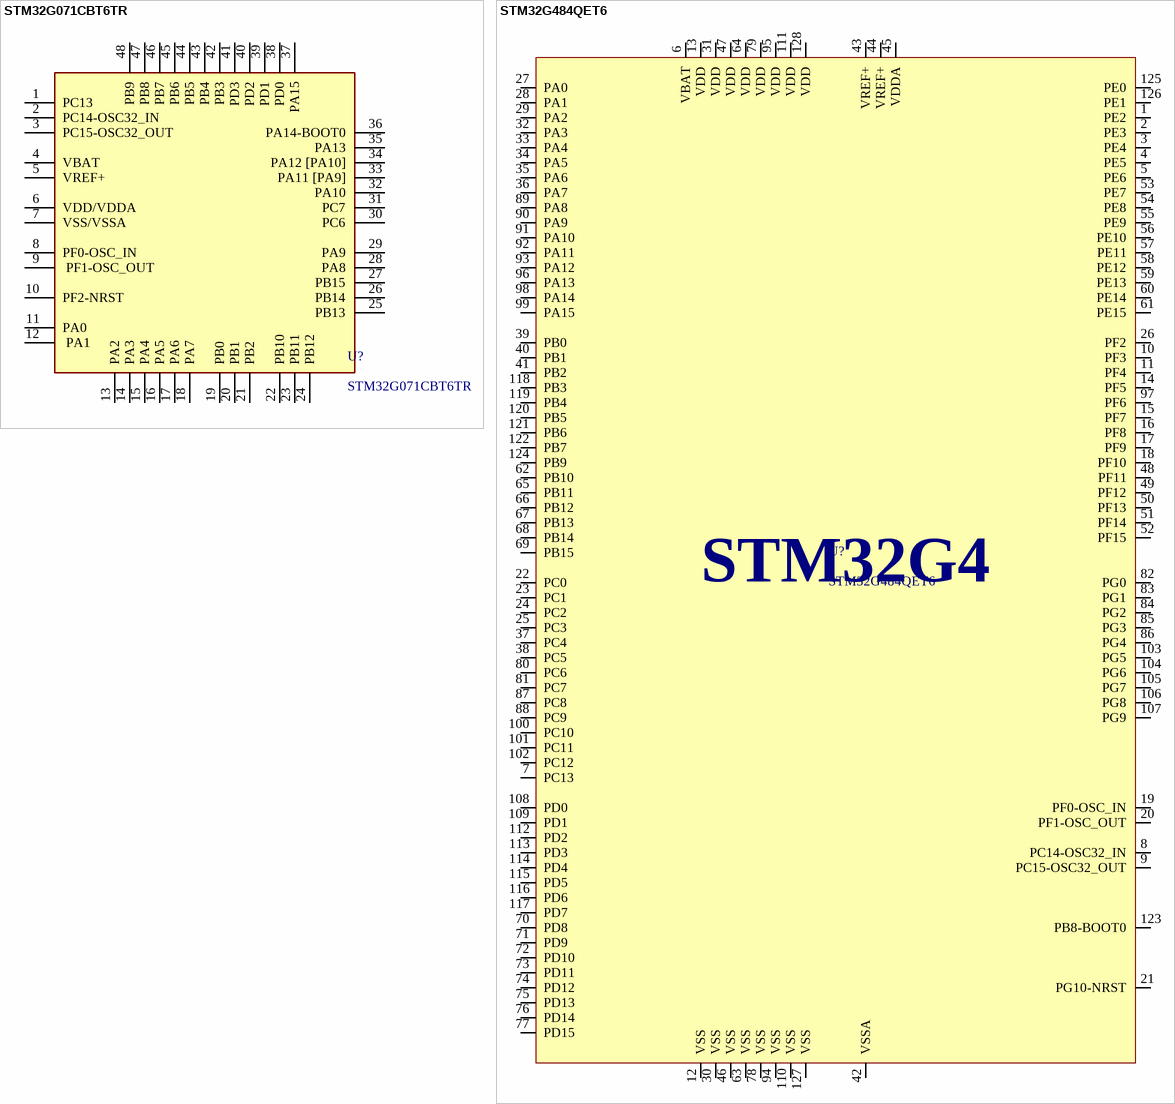
[diagram p34: symbols STM32G071CBT6TR to STM32G484QET6]

## STM32G071CBT6TR
designator U?
ARM® Cortex®-M0+ STM32G0 Microcontroller IC 32-Bit Single-Core 64MHz 128KB (128K x 8) FLASH 48-LQFP (7x7)
footprint QFP50P900X900X160-48N
pins: 1 PC13, 2 PC14-OSC32_IN, 3 PC15-OSC32_OUT, 4 VBAT, 5 VREF+, 6 VDD/VDDA, 7 VSS/VSSA, 8 PF0-OSC_IN, 9  PF1-OSC_OUT, 10 PF2-NRST, 11 PA0, 12  PA1, 13 PA2, 14 PA3, 15 PA4, 16 PA5, 17 PA6, 18 PA7, 19 PB0, 20 PB1, 21 PB2, 22 PB10, 23 PB11, 24 PB12, 25 PB13, 26 PB14, 27 PB15, 28 PA8, 29 PA9, 30 PC6, 31 PC7, 32 PA10, 33  PA11 [PA9], 34 PA12 [PA10], 35 PA13, 36 PA14-BOOT0, 37 PA15, 38 PD0, 39 PD1, 40 PD2, 41 PD3, 42 PB3, 43 PB4, 44 PB5, 45 PB6, 46 PB7, 47 PB8, 48 PB9

## STM32G484QET6
designator U?
STM32G4 Microcontroller LQFP-128 170 MHz 107 I/O; Manufacturer: STMicroelectronics; Manufacturer Part Number: STM32G484QET6
footprint LQFP-128 (CQFP, 128-Leads, Body 16,00x16,00mm, Pitch 0,40mm, IPC Medium Density)
pins: 1 PE2, 2 PE3, 3 PE4, 4 PE5, 5 PE6, 6 VBAT, 7 PC13, 8 PC14-OSC32_IN, 9 PC15-OSC32_OUT, 10 PF3, 11 PF4, 12 VSS, 13 VDD, 14 PF5, 15 PF7, 16 PF8, 17 PF9, 18 PF10, 19 PF0-OSC_IN, 20 PF1-OSC_OUT, 21 PG10-NRST, 22 PC0, 23 PC1, 24 PC2, 25 PC3, 26 PF2, 27 PA0, 28 PA1, 29 PA2, 30 VSS, 31 VDD, 32 PA3, 33 PA4, 34 PA5, 35 PA6, 36 PA7, 37 PC4, 38 PC5, 39 PB0, 40 PB1, 41 PB2, 42 VSSA, 43 VREF+, 44 VREF+, 45 VDDA, 46 VSS, 47 VDD, 48 PF11, 49 PF12, 50 PF13, 51 PF14, 52 PF15, 53 PE7, 54 PE8, 55 PE9, 56 PE10, 57 PE11, 58 PE12, 59 PE13, 60 PE14, 61 PE15, 62 PB10, 63 VSS, 64 VDD, 65 PB11, 66 PB12, 67 PB13, 68 PB14, 69 PB15, 70 PD8, 71 PD9, 72 PD10, 73 PD11, 74 PD12, 75 PD13, 76 PD14, 77 PD15, 78 VSS, 79 VDD, 80 PC6, 81 PC7, 82 PG0, 83 PG1, 84 PG2, 85 PG3, 86 PG4, 87 PC8, 88 PC9, 89 PA8, 90 PA9, 91 PA10, 92 PA11, 93 PA12, 94 VSS, 95 VDD, 96 PA13, 97 PF6, 98 PA14, 99 PA15, 100 PC10, 101 PC11, 102 PC12, 103 PG5, 104 PG6, 105 PG7, 106 PG8, 107 PG9, 108 PD0, 109 PD1, 110 VSS, 111 VDD, 112 PD2, 113 PD3, 114 PD4, 115 PD5, 116 PD6, 117 PD7, 118 PB3, 119 PB4, 120 PB5, 121 PB6, 122 PB7, 123 PB8-BOOT0, 124 PB9, 125 PE0, 126 PE1, 127 VSS, 128 VDD
text: STM32G4

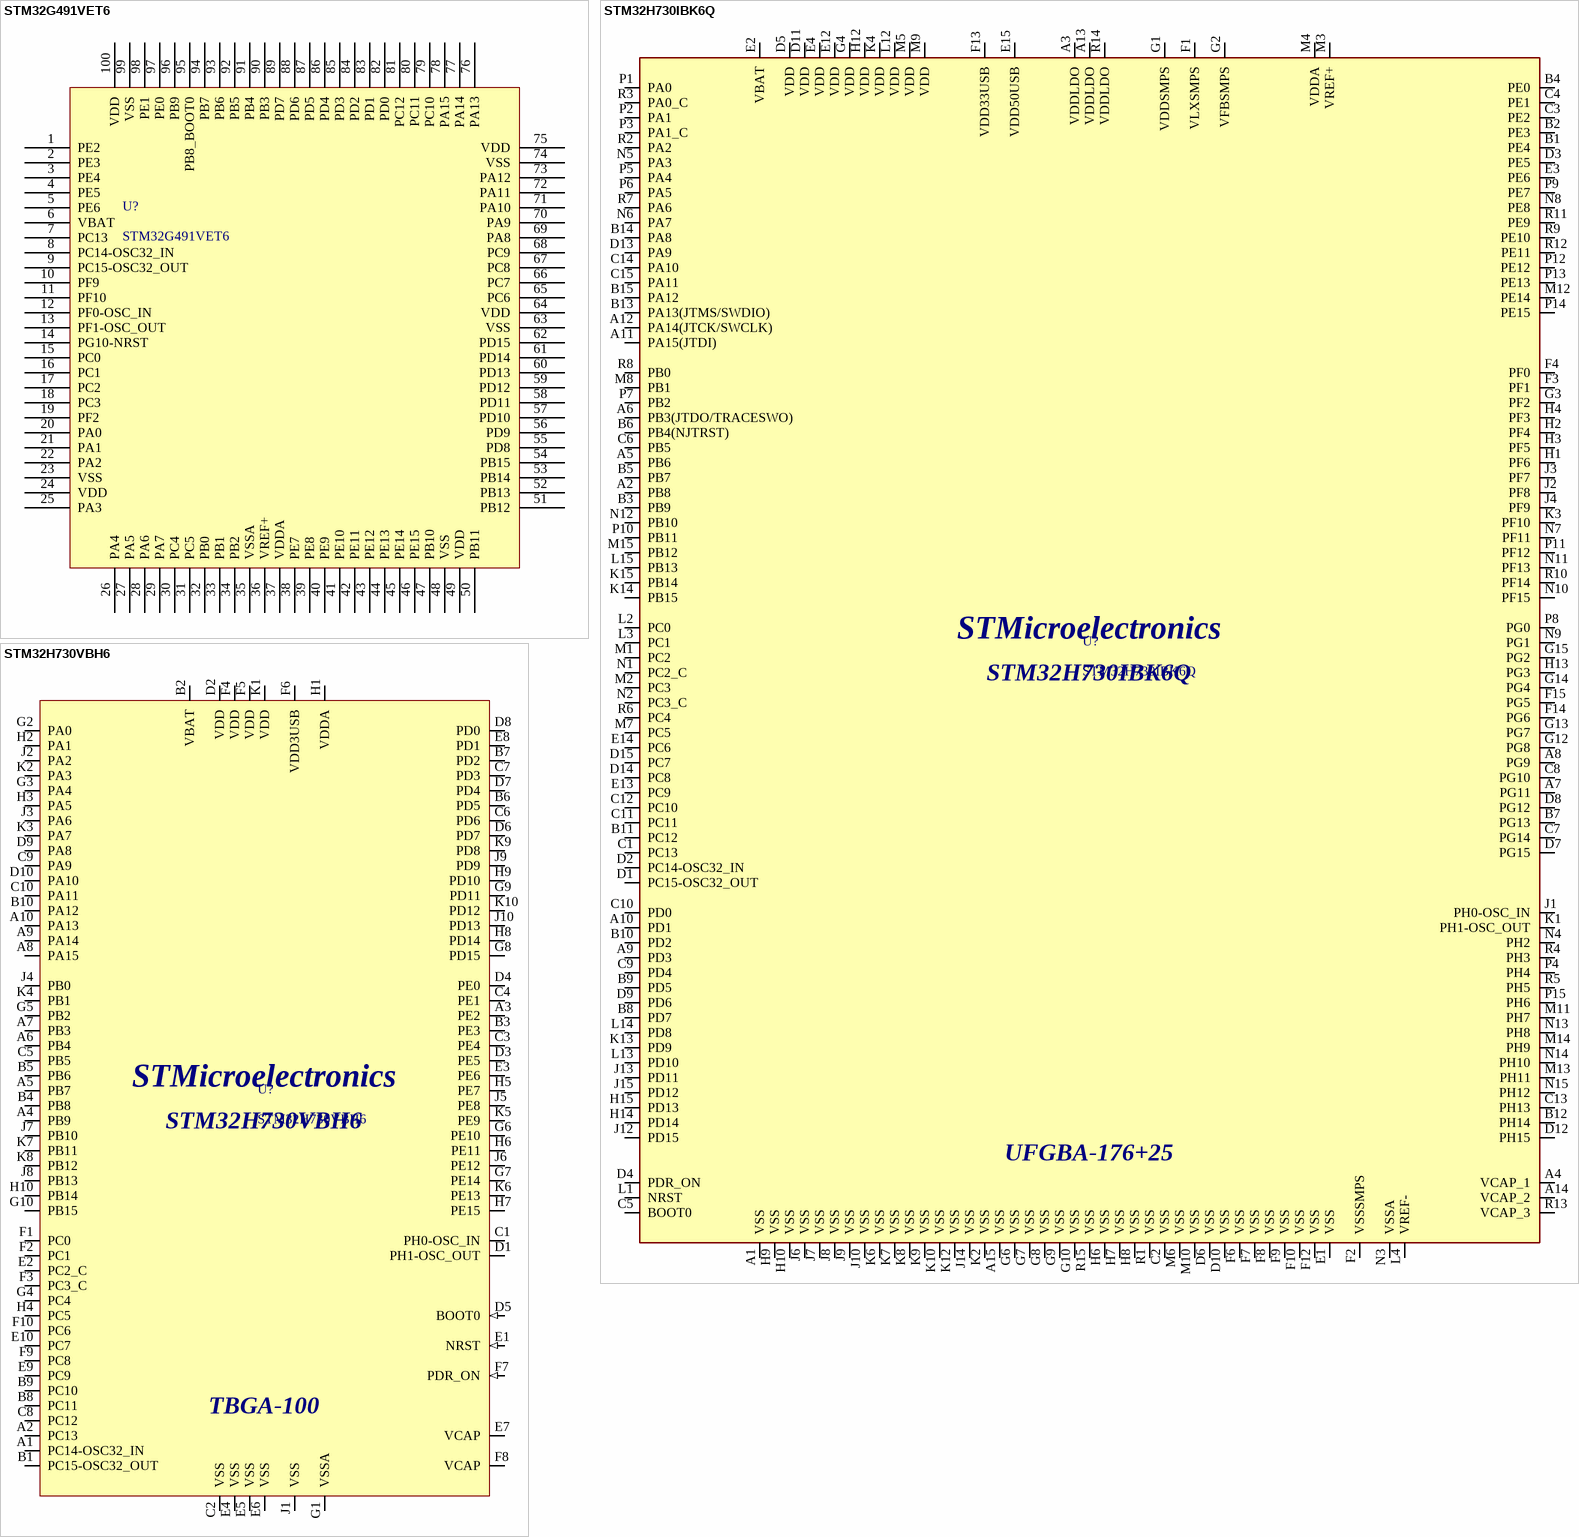
[diagram p35: symbols STM32G491VET6 to STM32H730VBH6]

## STM32G491VET6
designator U?
ARM Cortex-M Series 170MHz LQFP-100(14x14) Microcontrollers (MCU/MPU/SOC) ROHS
footprint LQFP_100
pins: 1 PE2, 2 PE3, 3 PE4, 4 PE5, 5 PE6, 6 VBAT, 7 PC13, 8 PC14-OSC32_IN, 9 PC15-OSC32_OUT, 10 PF9, 11 PF10, 12 PF0-OSC_IN, 13 PF1-OSC_OUT, 14 PG10-NRST, 15 PC0, 16 PC1, 17 PC2, 18 PC3, 19 PF2, 20 PA0, 21 PA1, 22 PA2, 23 VSS, 24 VDD, 25 PA3, 26 PA4, 27 PA5, 28 PA6, 29 PA7, 30 PC4, 31 PC5, 32 PB0, 33 PB1, 34 PB2, 35 VSSA, 36 VREF+, 37 VDDA, 38 PE7, 39 PE8, 40 PE9, 41 PE10, 42 PE11, 43 PE12, 44 PE13, 45 PE14, 46 PE15, 47 PB10, 48 VSS, 49 VDD, 50 PB11, 51 PB12, 52 PB13, 53 PB14, 54 PB15, 55 PD8, 56 PD9, 57 PD10, 58 PD11, 59 PD12, 60 PD13, 61 PD14, 62 PD15, 63 VSS, 64 VDD, 65 PC6, 66 PC7, 67 PC8, 68 PC9, 69 PA8, 70 PA9, 71 PA10, 72 PA11, 73 PA12, 74 VSS, 75 VDD, 76 PA13, 77 PA14, 78 PA15, 79 PC10, 80 PC11, 81 PC12, 82 PD0, 83 PD1, 84 PD2, 85 PD3, 86 PD4, 87 PD5, 88 PD6, 89 PD7, 90 PB3, 91 PB4, 92 PB5, 93 PB6, 94 PB7, 95 PB8_BOOT0, 96 PB9, 97 PE0, 98 PE1, 99 VSS, 100 VDD

## STM32H730IBK6Q
designator U?
Arm® Cortex®-M7 32b 550 MHz MCU, 128 KB Flash, 564 KB RAM, Ethernet, USB, 3xFD-CAN, Graphics, 2x16b ADCs, crypto/hash, UFBGA-176+25 (10x10); Manufacturer: STMicroelectronics; Manufacturer Part Number: STM32H730IBK6Q
footprint UFBGA176+25
pins: A1 VSS, A2 PB8, A3 VDDLDO, A4 VCAP_1, A5 PB6, A6 PB3(JTDO/TRACESWO), A7 PG11, A8 PG9, A9 PD3, A10 PD1, A11 PA15(JTDI), A12 PA14(JTCK/SWCLK), A13 VDDLDO, A14 VCAP_2, A15 VSS, B1 PE4, B2 PE3, B3 PB9, B4 PE0, B5 PB7, B6 PB4(NJTRST), B7 PG13, B8 PD7, B9 PD5, B10 PD2, B11 PC12, B12 PH14, B13 PA13(JTMS/SWDIO), B14 PA8, B15 PA12, C1 PC13, C2 VSS, C3 PE2, C4 PE1, C5 BOOT0, C6 PB5, C7 PG14, C8 PG10, C9 PD4, C10 PD0, C11 PC11, C12 PC10, C13 PH13, C14 PA10, C15 PA11, D1 PC15-OSC32_OUT, D2 PC14-OSC32_IN, D3 PE5, D4 PDR_ON, D5 VDD, D6 VSS, D7 PG15, D8 PG12, D9 PD6, D10 VSS, D11 VDD, D12 PH15, D13 PA9, D14 PC8, D15 PC7, E1 VSS, E2 VBAT, E3 PE6, E4 VDD, E12 VDD, E13 PC9, E14 PC6, E15 VDD50USB, F1 VLXSMPS, F2 VSSSMPS, F3 PF1, F4 PF0, F6 VSS, F7 VSS, F8 VSS, F9 VSS, F10 VSS, F12 VSS, F13 VDD33USB, F14 PG6, F15 PG5, G1 VDDSMPS, G2 VFBSMPS, G3 PF2, G4 VDD, G6 VSS, G7 VSS, G8 VSS, G9 VSS, G10 VSS, G12 PG8, G13 PG7, G14 PG4, G15 PG2, H1 PF6, H2 PF4, H3 PF5, H4 PF3, H6 VSS, H7 VSS, H8 VSS, H9 VSS, H10 VSS, H12 VDD, H13 PG3, H14 PD14, H15 PD13, J1 PH0-OSC_IN, J2 PF8, J3 PF7, J4 PF9, J6 VSS, J7 VSS, J8 VSS, J9 VSS, J10 VSS, J12 PD15, J13 PD11, J14 VSS, J15 PD12, K1 PH1-OSC_OUT, K2 VSS, K3 PF10, K4 VDD, K6 VSS, K7 VSS, K8 VSS, K9 VSS, K10 VSS, K12 VSS, K13 PD9, K14 PB15, K15 PB14, L1 NRST, L2 PC0, L3 PC1, L4 VREF-, L12 VDD, L13 PD10, L14 PD8, L15 PB13, M1 PC2, M2 PC3, M3 VREF+, M4 VDDA, M5 VDD, M6 VSS, M7 PC5, M8 PB1, M9 VDD, M10 VSS, M11 PH7, M12 PE14, M13 PH11, M14 PH9, M15 PB12, N1 PC2_C, N2 PC3_C, N3 VSSA, N4 PH2, N5 PA3, N6 PA7, N7 PF11, N8 PE8, N9 PG1, N10 PF15, N11 PF13, N12 PB10, N13 PH8, N14 PH10, N15 PH12, P1 PA0, P2 PA1, P3 PA1_C, P4 PH4, P5 PA4, P6 PA5, P7 PB2, P8 PG0, P9 PE7, P10 PB11, P11 PF12, P12 PE12, P13 PE13, P14 PE15, P15 PH6, R1 VSS, R2 PA2, R3 PA0_C, R4 PH3, R5 PH5, R6 PC4, R7 PA6, R8 PB0, R9 PE10, R10 PF14, R11 PE9, R12 PE11, R13 VCAP_3, R14 VDDLDO, R15 VSS
text: UFGBA-176+25

## STM32H730VBH6
designator U?
32-bit Arm® Cortex®-M7 550 MHz MCU, 128 KB Flash, 564 KB RAM, 35 comms peripherals and analog interfaces, TFBGA-100; Manufacturer: STMicroelectronics; Manufacturer Part Number: STM32H730VBH6
pins: A1 PC14-OSC32_IN (io), A2 PC13 (io), A3 PE2 (io), A4 PB9 (io), A5 PB7 (io), A6 PB4 (io), A7 PB3 (io), A8 PA15 (io), A9 PA14 (io), A10 PA13 (io), B1 PC15-OSC32_OUT (io), B2 VBAT (power), B3 PE3 (io), B4 PB8 (io), B5 PB6 (io), B6 PD5 (io), B7 PD2 (io), B8 PC11 (io), B9 PC10 (io), B10 PA12 (io), C1 PH0-OSC_IN (io), C2 VSS (power), C3 PE4 (io), C4 PE1 (io), C5 PB5 (io), C6 PD6 (io), C7 PD3 (io), C8 PC12 (io), C9 PA9 (io), C10 PA11 (io), D1 PH1-OSC_OUT (io), D2 VDD (power), D3 PE5 (io), D4 PE0 (io), D5 BOOT0 (in), D6 PD7 (io), D7 PD4 (io), D8 PD0 (io), D9 PA8 (io), D10 PA10 (io), E1 NRST (in), E2 PC2_C (io), E3 PE6 (io), E4 VSS (power), E5 VSS (power), E6 VSS (power), E7 VCAP (power), E8 PD1 (io), E9 PC9 (io), E10 PC7 (io), F1 PC0 (io), F2 PC1 (io), F3 PC3_C (io), F4 VDD (power), F5 VDD (power), F6 VDD3USB (power), F7 PDR_ON (in), F8 VCAP (power), F9 PC8 (io), F10 PC6 (io), G1 VSSA (power), G2 PA0 (io), G3 PA4 (io), G4 PC4 (io), G5 PB2 (io), G6 PE10 (io), G7 PE14 (io), G8 PD15 (io), G9 PD11 (io), G10 PB15 (io), H1 VDDA (power), H2 PA1 (io), H3 PA5 (io), H4 PC5 (io), H5 PE7 (io), H6 PE11 (io), H7 PE15 (io), H8 PD14 (io), H9 PD10 (io), H10 PB14 (io), J1 VSS (power), J2 PA2 (io), J3 PA6 (io), J4 PB0 (io), J5 PE8 (io), J6 PE12 (io), J7 PB10 (io), J8 PB13 (io), J9 PD9 (io), J10 PD13 (io), K1 VDD (power), K2 PA3 (io), K3 PA7 (io), K4 PB1 (io), K5 PE9 (io), K6 PE13 (io), K7 PB11 (io), K8 PB12 (io), K9 PD8 (io), K10 PD12 (io)
text: TBGA-100